# Altium schematic symbol library STO.SchLib: 181 symbols
Pins are listed as number, name and electrical type; pins without a type are passive.

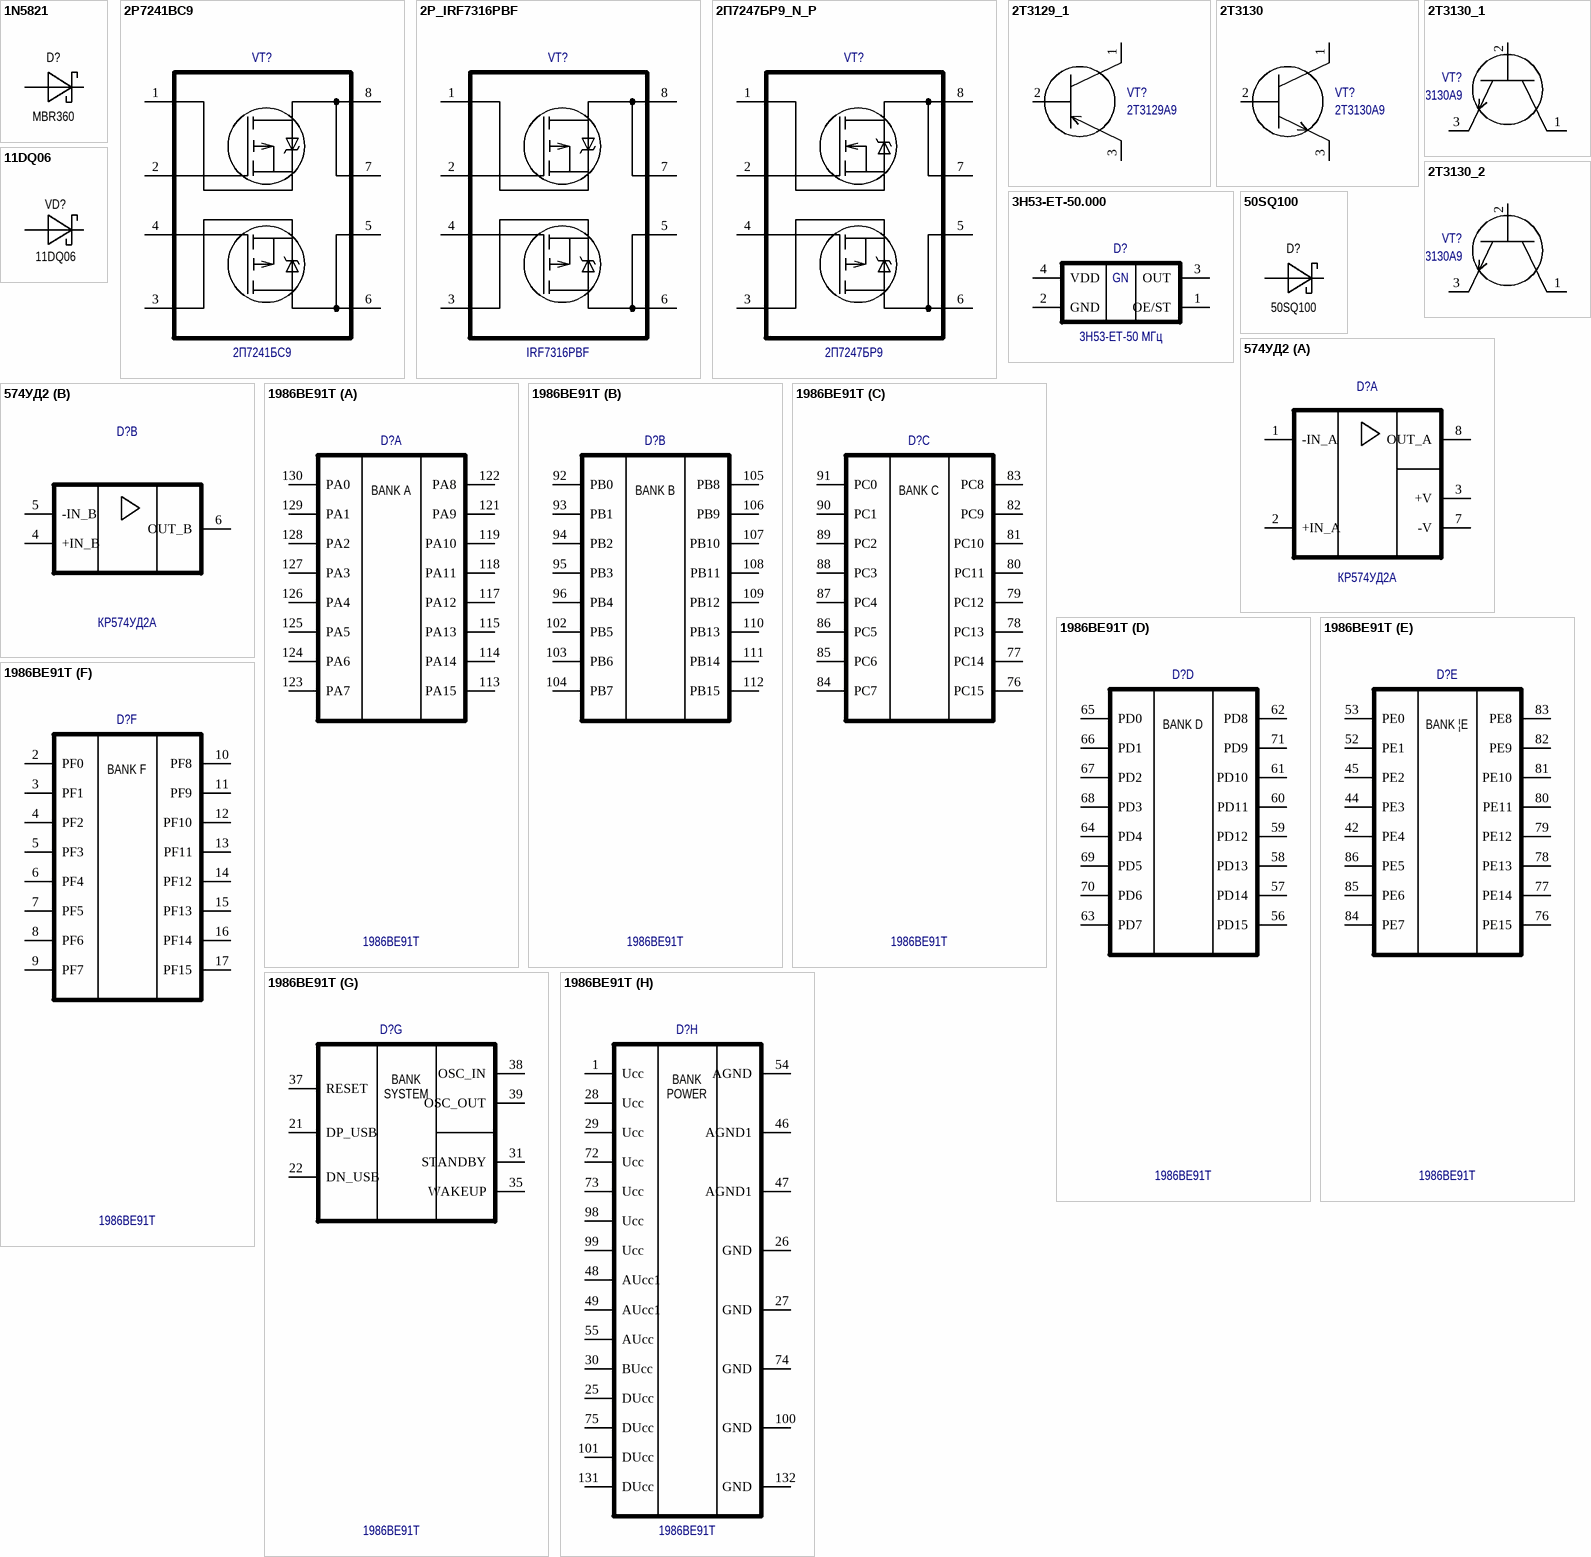
[diagram p0: symbols 1N5821 to 1986ВЕ91Т]

## 1N5821
designator D?, comment MBR360
pins: 1 A, 1 C

## 2P7241BC9
designator VT?, comment Name: 2П7241БС9  (hidden comment: 2П7241БС9 (4320.8-A) АЕЯР.432140.605 ТУ)
NameCompany: ВЗПП-С; Body: 4320.8-A; TU: АЕЯР.432140.605 ТУ; Value: 2П7241БС9; Family: Транзистор; PartNumber: 2П7241БС9
pins: 1 S1, 2 G1, 3 D2, 4 S2, 5 G2, 6 D1, 7 D1, 8 D1

## 2P_IRF7316PBF
designator VT?  PartNumber: IRF7316PBF
Company: IRF; Value: IRF7316PBF; Package: SOIC-8
pins: 1 S1, 2 G1, 3 D2, 4 S2, 5 G2, 6 D1, 7 D1, 8 D1

## 2П7247БР9_N_P
designator VT?, comment Name: 2П7247БР9  (hidden comment: 2П7247БР9 (4320.8-A) АЕЯР.432140.605 ТУ)
NameCompany: ВЗПП-С; Body: 4320.8-A; TU: АЕЯР.432140.605 ТУ; Value: 2П7247БР9; Family: Транзистор; PartNumber: 2П7247БР9
pins: 1 S1, 2 G1, 3 D2, 4 S2, 5 G2, 6 D1, 7 D1, 8 D1

## 2Т3129_1
designator VT?, comment Name: 2Т3129А9  (hidden comment: 2Т3129А9 (КТ-46А) АО.336.448ТУ / 02)
NameCompany: Интеграл; Body: КТ-46А; TU: АО.336.448ТУ / 02; Value: 2Т3129А9; Family: Транзистор; PartNumber: 2Т3129А9
pins: 1 K, 2 B, 3 E

## 2Т3130
designator VT?, comment Name: 2Т3130А9  (hidden comment: 2Т3130А9 (КТ-46А) аАО.336.448ТУ / 02)
NameCompany: Интеграл; Body: КТ-46А; TU: аАО.336.448ТУ / 02; Value: 2Т3130А9; Family: Транзистор; PartNumber: 2Т3130А9
pins: 1 K, 2 B, 3 E

## 2Т3130_1
designator VT?, comment Name: 2Т3130А9  (hidden comment: 2Т3130А9 (КТ-46А) аАО.336.448ТУ / 02)
NameCompany: Интеграл; Body: КТ-46А; TU: аАО.336.448ТУ / 02; Value: 2Т3130А9; Family: Транзистор; PartNumber: 2Т3130А9
pins: 1 K, 2 B, 3 E

## 2Т3130_2
designator VT?, comment Name: 2Т3130А9  (hidden comment: 2Т3130А9 (КТ-46А) аАО.336.448ТУ / 02)
NameCompany: Интеграл; Body: КТ-46А; TU: аАО.336.448ТУ / 02; Value: 2Т3130А9; Family: Транзистор; PartNumber: 2Т3130А9
pins: 1 K, 2 B, 3 E

## 3H53-ET-50.000
designator D?  value 3H53-ET-50 МГц
PartNumber: 3H53-ET-50.000; Company: Mercury United Electronics; Package: 0532
footprint SG8002JF (Crystal, SM; 4 Leads; Body 7 x 5 x 1.5 mm (LxWxH))
pins: 1 OE/ST, 2 GND, 3 OUT, 4 VDD
text: GN

## 11DQ06
designator VD?
pins: 1 A, 1 C

## 50SQ100
designator D?
pins: 1 A, 1 C

## 574УД2
designator D?, comment value КР574УД2A  (hidden comment: КР574УД2A (DIP-8) *)
Package: DIP-8; Company: *; PartNumber: КР574УД2A
footprint D*B (КР574УД2А (DIP-8))
footprint D*A (КР574УД2А (DIP-8))
part A pins: 1 -IN_A, 2 +IN_A, 3 +V, 7 -V, 8 OUT_A
part B pins: 4 +IN_B, 5 -IN_B, 6 OUT_B

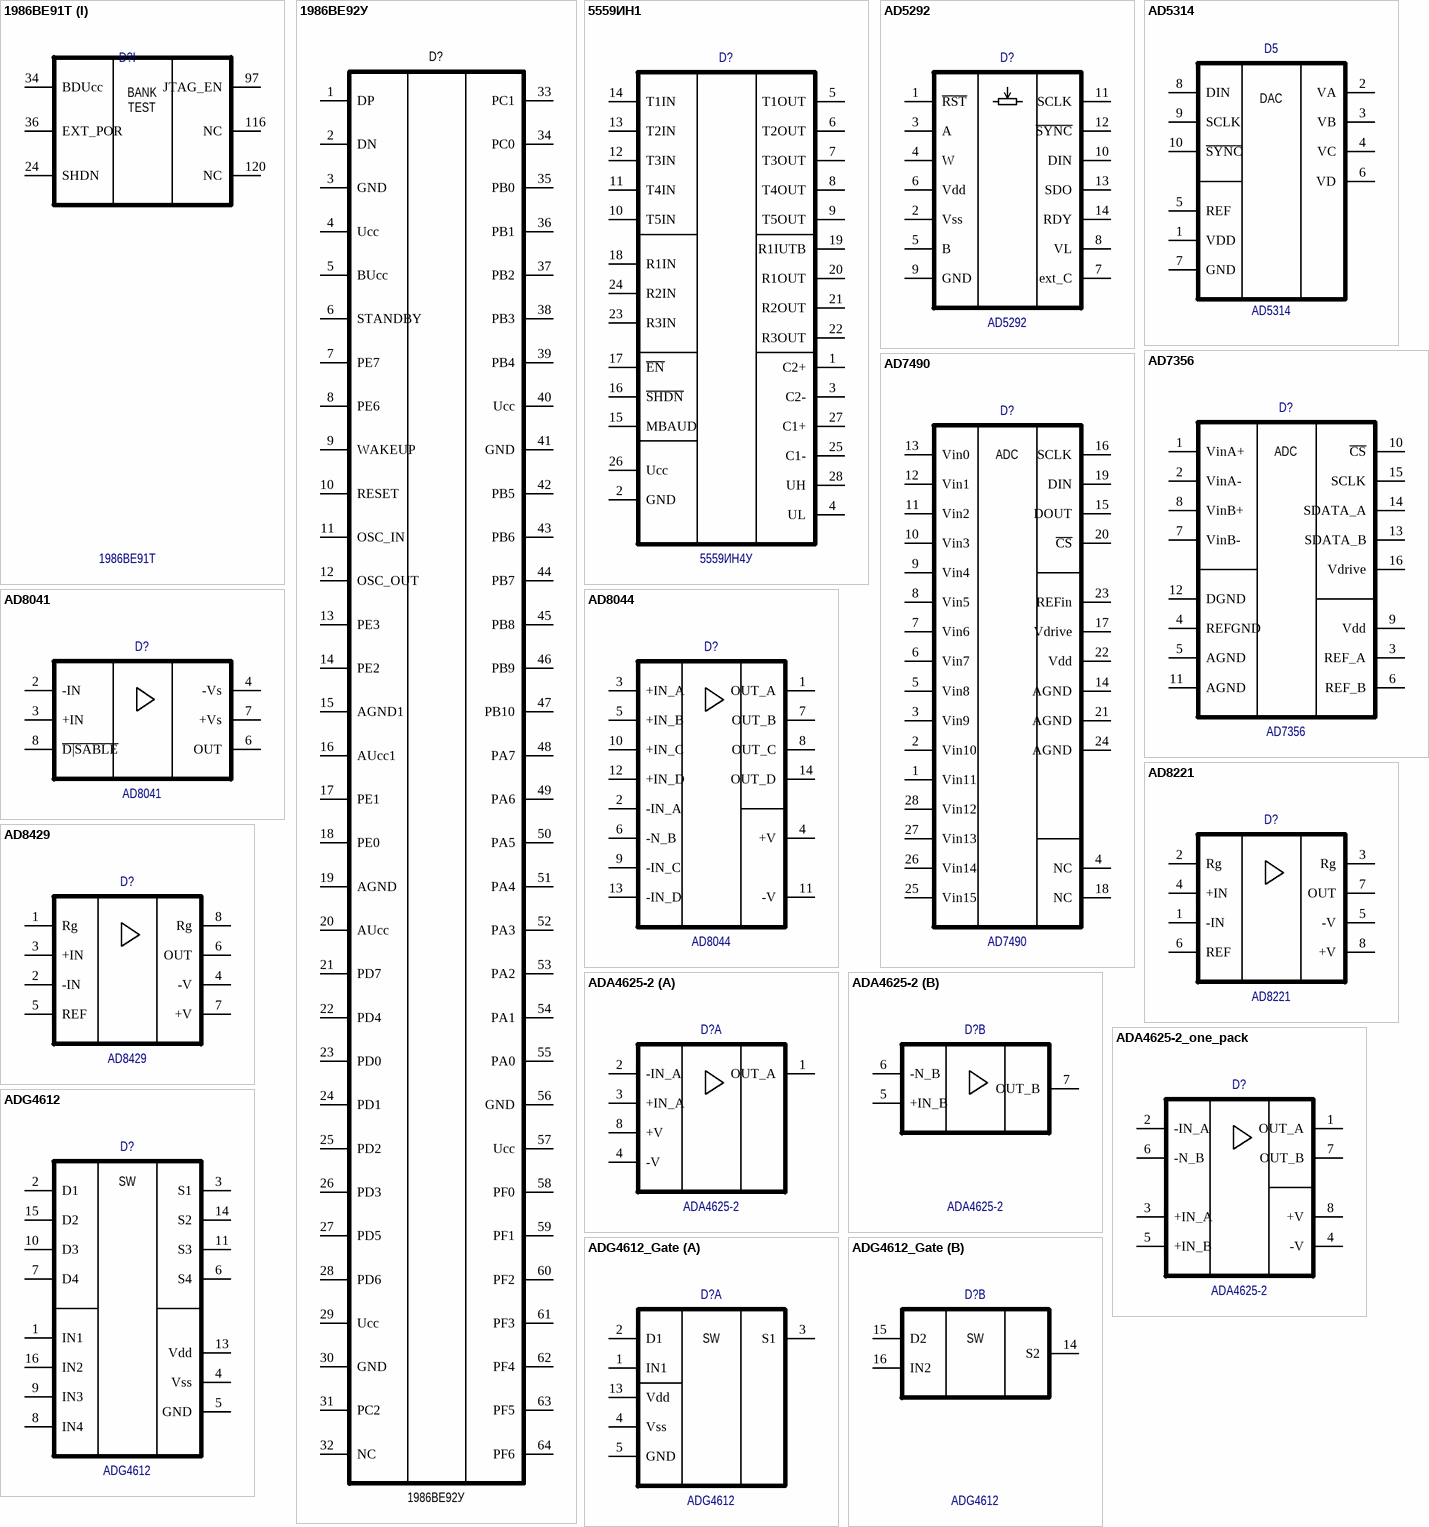
[diagram p1: symbols 1986ВЕ91Т to ADG4612_Gate]

## 1986ВЕ91Т
designator D?, comment value 1986ВЕ91Т  (hidden comment: (4229.132-3) Миландр)
Company: Миландр; Package: 4229.132-3
part A pins: 113 PA15, 114 PA14, 115 PA13, 117 PA12, 118 PA11, 119 PA10, 121 PA9, 122 PA8, 123 PA7, 124 PA6, 125 PA5, 126 PA4, 127 PA3, 128 PA2, 129 PA1, 130 PA0
part B pins: 92 PB0, 93 PB1, 94 PB2, 95 PB3, 96 PB4, 102 PB5, 103 PB6, 104 PB7, 105 PB8, 106 PB9, 107 PB10, 108 PB11, 109 PB12, 110 PB13, 111 PB14, 112 PB15
part C pins: 76 PC15, 77 PC14, 78 PC13, 79 PC12, 80 PC11, 81 PC10, 82 PC9, 83 PC8, 84 PC7, 85 PC6, 86 PC5, 87 PC4, 88 PC3, 89 PC2, 90 PC1, 91 PC0
part D pins: 56 PD15, 57 PD14, 58 PD13, 59 PD12, 60 PD11, 61 PD10, 62 PD8, 63 PD7, 64 PD4, 65 PD0, 66 PD1, 67 PD2, 68 PD3, 69 PD5, 70 PD6, 71 PD9
part E pins: 42 PE4, 44 PE3, 45 PE2, 52 PE1, 53 PE0, 76 PE15, 77 PE14, 78 PE13, 79 PE12, 80 PE11, 81 PE10, 82 PE9, 83 PE8, 84 PE7, 85 PE6, 86 PE5
part F pins: 2 PF0, 3 PF1, 4 PF2, 5 PF3, 6 PF4, 7 PF5, 8 PF6, 9 PF7, 10 PF8, 11 PF9, 12 PF10, 13 PF11, 14 PF12, 15 PF13, 16 PF14, 17 PF15
part G pins: 21 DP_USB, 22 DN_USB, 31 STANDBY, 35 WAKEUP, 37 RESET, 38 OSC_IN, 39 OSC_OUT
part H pins: 1 Ucc, 25 DUcc, 26 GND, 27 GND, 28 Ucc, 29 Ucc, 30 BUcc, 46 AGND1, 47 AGND1, 48 AUcc1, 49 AUcc1, 54 AGND, 55 AUcc, 72 Ucc, 73 Ucc, 74 GND, 75 DUcc, 98 Ucc, 99 Ucc, 100 GND, 101 DUcc, 131 DUcc, 132 GND
part I pins: 24 SHDN, 34 BDUcc, 36 EXT_POR, 97 JTAG_EN, 116 NC, 120 NC
part A text: BANK A
part B text: BANK B
part C text: BANK C
part D text: BANK D
part E text: BANK |E
part F text: BANK F
part G text: BANK; SYSTEM
part H text: BANK; POWER
part I text: BANK; TEST

## 1986ВЕ92У
designator D?
pins: 1 DP, 2 DN, 3 GND, 4 Ucc, 5 BUcc, 6 STANDBY, 7 PE7, 8 PE6, 9 WAKEUP, 10 RESET, 11 OSC_IN, 12 OSC_OUT, 13 PE3, 14 PE2, 15 AGND1, 16 AUcc1, 17 PE1, 18 PE0, 19 AGND, 20 AUcc, 21 PD7, 22 PD4, 23 PD0, 24 PD1, 25 PD2, 26 PD3, 27 PD5, 28 PD6, 29 Ucc, 30 GND, 31 PC2, 32 NC, 33 PC1, 34 PC0, 35 PB0, 36 PB1, 37 PB2, 38 PB3, 39 PB4, 40 Ucc, 41 GND, 42 PB5, 43 PB6, 44 PB7, 45 PB8, 46 PB9, 47 PB10, 48 PA7, 49 PA6, 50 PA5, 51 PA4, 52 PA3, 53 PA2, 54 PA1, 55 PA0, 56 GND, 57 Ucc, 58 PF0, 59 PF1, 60 PF2, 61 PF3, 62 PF4, 63 PF5, 64 PF6

## 5559ИН1
designator D?, comment value 5559ИН4У  (hidden comment: К5559ИН4УК (Н09.28-1В) АО "ПКК Миландр")
Company: АО "ПКК Миландр"; PartNumber: К5559ИН4УК; Package: Н09.28-1В
pins: 1 C2+, 2 GND, 3 C2-, 4 UL, 5 T1OUT, 6 T2OUT, 7 T3OUT, 8 T4OUT, 9 T5OUT, 10 T5IN, 11 T4IN, 12 T3IN, 13 T2IN, 14 T1IN, 15 MBAUD, 16 ~{SHDN}, 17 ~{EN}, 18 R1IN, 19 R1IUTB, 20 R1OUT, 21 R2OUT, 22 R3OUT, 23 R3IN, 24 R2IN, 25 C1-, 26 Ucc, 27 C1+, 28 UH

## AD5292
designator D?, comment value AD5292  (hidden comment: AD5292BRUZ-50 (TSSOP-14) Analog Devices)
Company: Analog Devices; PartNumber: AD5292BRUZ-50; Package: TSSOP-14
pins: 1 ~{RST}, 2 Vss, 3 A, 4 W, 5 B, 6 Vdd, 7 ext_C, 8 VL, 9 GND, 10 DIN, 11 SCLK, 12 ~{SYNC}, 13 SDO, 14 RDY

## AD5314
designator D5, comment value AD5314  (hidden comment: AD5314 (MSOP-10) Analog Devices)
PartNumber: AD5314BRM; Package: MSOP-10; Company: Analog Devices
footprint MS10 (Shrink Small Outline; 10 Leads; Body Width 3 mm; Pitch 0.5 mm)
pins: 1 VDD, 2 VA, 3 VB, 4 VC, 5 REF, 6 VD, 7 GND, 8 DIN, 9 SCLK, 10 ~{SYNC}
text: DAC

## AD7356
designator D?, comment value AD7356  (hidden comment: AD7356BRUZ (TSSOP-16) Analog Devices)
Company: Analog Devices; PartNumber: AD7356BRUZ; Package: TSSOP-16
pins: 1 VinA+, 2 VinA-, 3 REF_A, 4 REFGND, 5 AGND, 6 REF_B, 7 VinB-, 8 VinB+, 9 Vdd, 10 ~{CS}, 11 AGND, 12 DGND, 13 SDATA_B, 14 SDATA_A, 15 SCLK, 16 Vdrive
text: ADC

## AD7490
designator D?, comment value AD7490  (hidden comment: AD7490BRU (TSSOP-28) Analog Devices)
Company: Analog Devices; PartNumber: AD7490BRU; Package: TSSOP-28
pins: 1 Vin11, 2 Vin10, 3 Vin9, 4 NC, 5 Vin8, 6 Vin7, 7 Vin6, 8 Vin5, 9 Vin4, 10 Vin3, 11 Vin2, 12 Vin1, 13 Vin0, 14 AGND, 15 DOUT, 16 SCLK, 17 Vdrive, 18 NC, 19 DIN, 20 ~{CS}, 21 AGND, 22 Vdd, 23 REFin, 24 AGND, 25 Vin15, 26 Vin14, 27 Vin13, 28 Vin12
text: ADC

## AD8041
designator D?, comment value AD8041  (hidden comment: () Analog Devices)
Company: Analog Devices
pins: 2 -IN, 3 +IN, 4 -Vs, 6 OUT, 7 +Vs, 8 ~{D|SABLE}

## AD8044
designator D?, comment value AD8044  (hidden comment: () Analog Devices)
Company: Analog Devices
pins: 1 OUT_A, 2 -IN_A, 3 +IN_A, 4 +V, 5 +IN_B, 6 -N_B, 7 OUT_B, 8 OUT_C, 9 -IN_C, 10 +IN_C, 11 -V, 12 +IN_D, 13 -IN_D, 14 OUT_D

## AD8221
designator D?, comment value AD8221  (hidden comment: AD8221AR (SOIC-8) Analog Devices)
Company: Analog Devices; PartNumber: AD8221AR; Package: SOIC-8
pins: 1 -IN, 2 Rg, 3 Rg, 4 +IN, 5 -V, 6 REF, 7 OUT, 8 +V

## AD8429
designator D?, comment value AD8429  (hidden comment: AD8429 (SOIC-8) Analog Devices)
Company: Analog Devices; PartNumber: AD8429; Package: SOIC-8
pins: 1 Rg, 2 -IN, 3 +IN, 4 -V, 5 REF, 6 OUT, 7 +V, 8 Rg

## ADA4625-2
designator D?, comment value ADA4625-2  (hidden comment: ADA4625-2ARDZ (SOIC-8_N_EP) Analog Devices)
Company: Analog Devices; PartNumber: ADA4625-2ARDZ; Package: SOIC-8_N_EP
part A pins: 1 OUT_A, 2 -IN_A, 3 +IN_A, 4 -V, 8 +V
part B pins: 5 +IN_B, 6 -N_B, 7 OUT_B

## ADA4625-2_one_pack
designator D?, comment value ADA4625-2  (hidden comment: ADA4625-2ARDZ (SOIC-8_N_EP) Analog Devices)
Company: Analog Devices; PartNumber: ADA4625-2ARDZ; Package: SOIC-8_N_EP
pins: 1 OUT_A, 2 -IN_A, 3 +IN_A, 4 -V, 5 +IN_B, 6 -N_B, 7 OUT_B, 8 +V

## ADG4612
designator D?, comment value ADG4612  (hidden comment: * (*) *)
Company: *; PartNumber: *; Package: *
pins: 1 IN1, 2 D1, 3 S1, 4 Vss, 5 GND, 6 S4, 7 D4, 8 IN4, 9 IN3, 10 D3, 11 S3, 13 Vdd, 14 S2, 15 D2, 16 IN2
text: SW

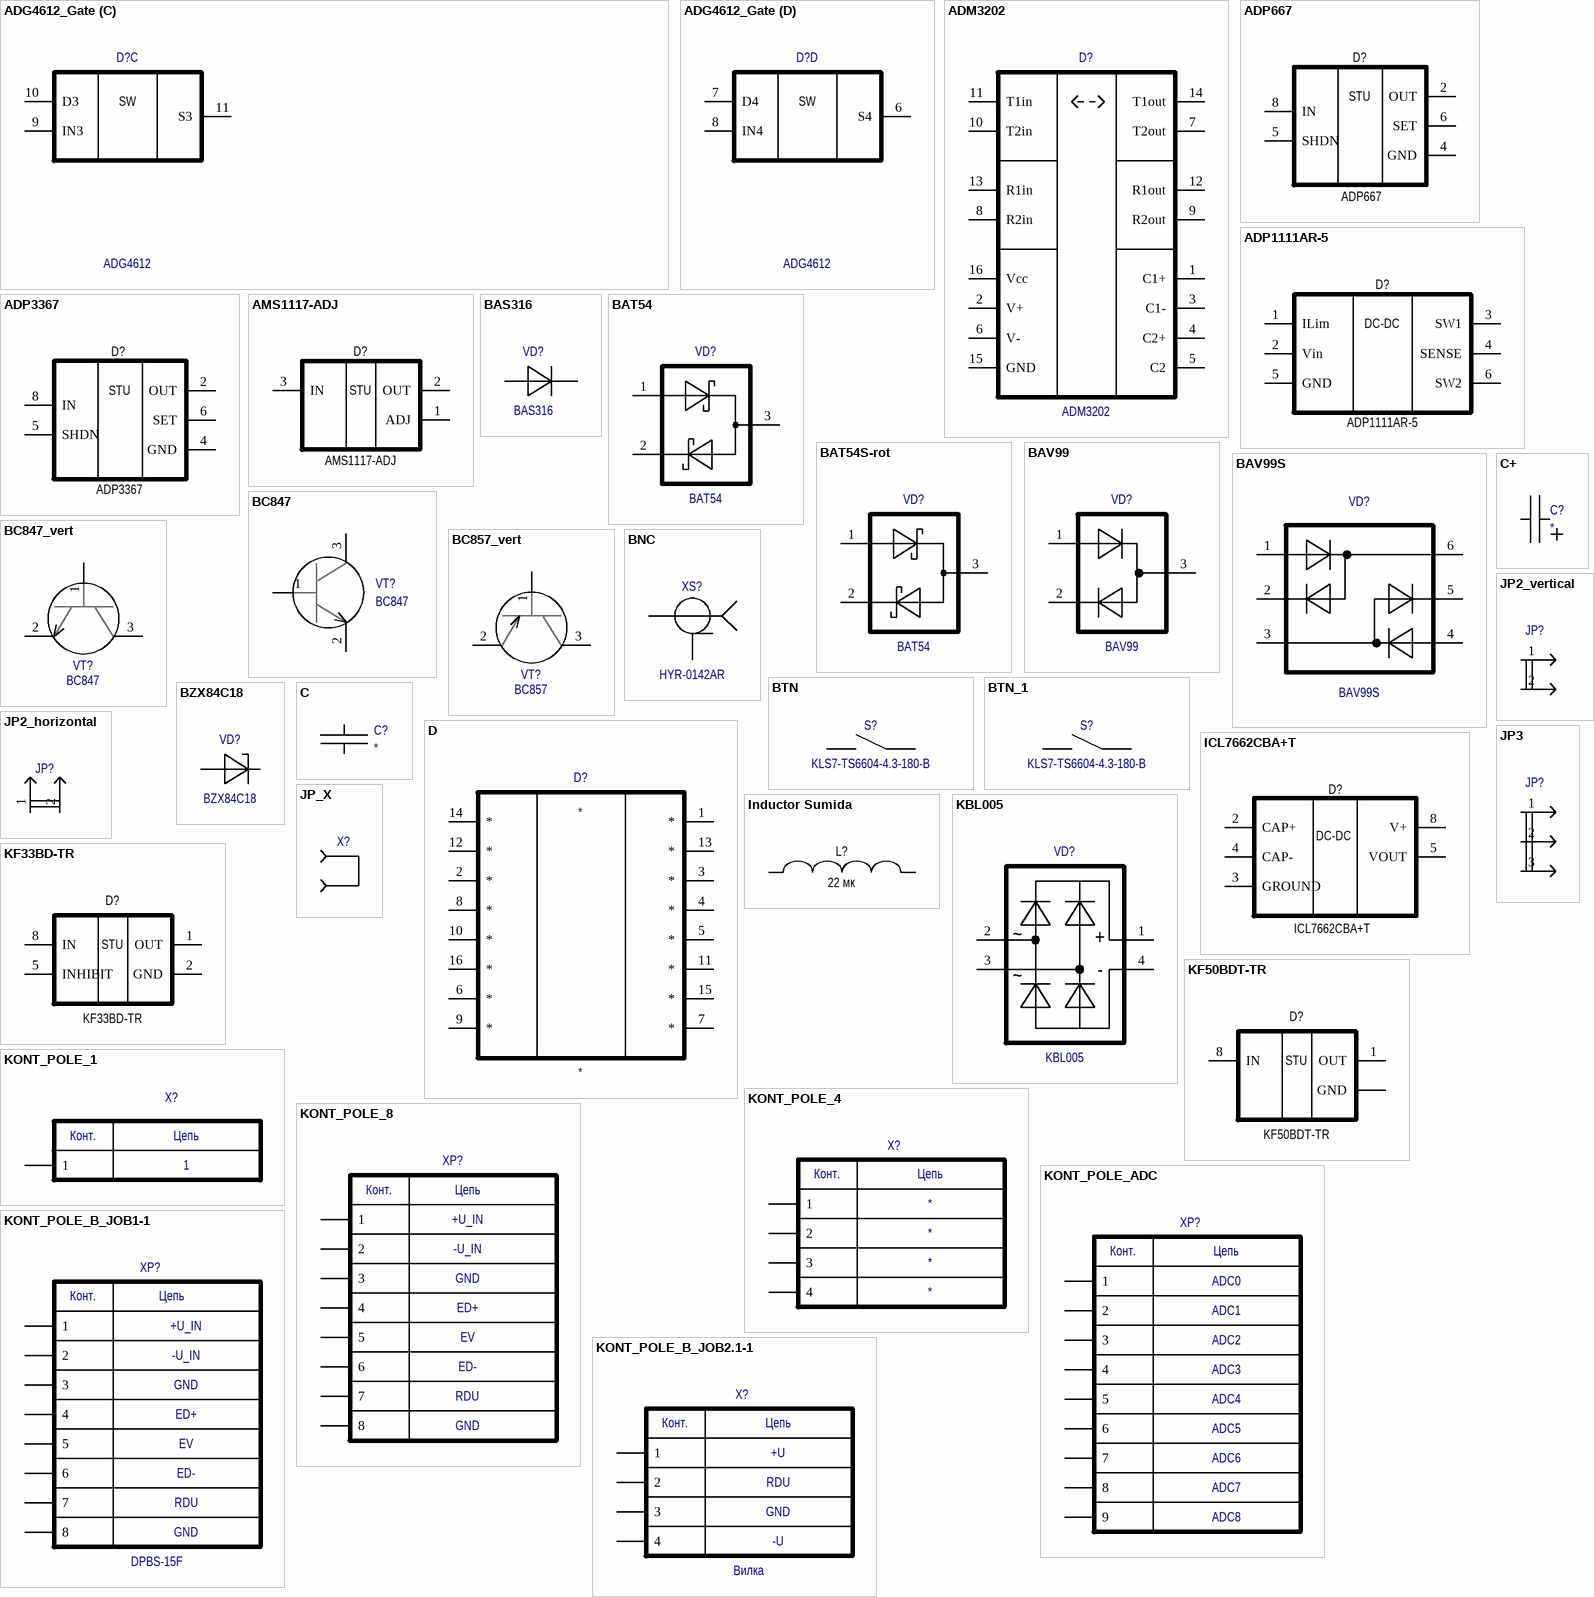
[diagram p2: symbols ADG4612_Gate to KONT_POLE_B_JOB2.1-1]

## ADG4612_Gate
designator D?, comment value ADG4612  (hidden comment: * (*) *)
Company: *; PartNumber: *; Package: *
part A pins: 1 IN1, 2 D1, 3 S1, 4 Vss, 5 GND, 13 Vdd
part B pins: 14 S2, 15 D2, 16 IN2
part C pins: 9 IN3, 10 D3, 11 S3
part D pins: 6 S4, 7 D4, 8 IN4
part A text: SW
part B text: SW
part C text: SW
part D text: SW

## ADM3202
designator D?, comment value ADM3202  (hidden comment: ADM3202ARN (SOIC-16) Analog Devices)
Company: Analog Devices; PartNumber: ADM3202ARN; Package: SOIC-16
pins: 1 C1+, 2 V+, 3 C1-, 4 C2+, 5 C2, 6 V-, 7 T2out, 8 R2in, 9 R2out, 10 T2in, 11 T1in, 12 R1out, 13 R1in, 14 T1out, 15 GND, 16 Vcc

## ADP667
designator D?
pins: 2 OUT, 4 GND, 5 SHDN, 6 SET, 8 IN
text: STU

## ADP1111AR-5
designator D?
pins: 1 ILim, 2 Vin, 3 SW1, 4 SENSE, 5 GND, 6 SW2
text: DC-DC

## ADP3367
designator D?
pins: 2 OUT, 4 GND, 5 SHDN, 6 SET, 8 IN
text: STU

## AMS1117-ADJ
designator D?
pins: 1 ADJ, 2 OUT, 3 IN
text: STU

## BAS316
designator VD?
Company: NXP; PartNumber: BAS316; Package: SOD-323; Value: BAS316
footprint SOD323 (SOD-323/SC-76; 2 Leads; Body 1.7 x 1.3 mm, (LxW))
pins: 1, 2

## BAT54
designator VD?
PartNumber: BAT54S; Company: Philips; Package: SOT-23; Value: BAT54
footprint SOT-23
pins: 1 A, 2 C, 3 AC

## BAT54S-rot
designator VD?  value BAT54  (hidden comment: BAT54S-rot)
PartNumber: BAT54S; Company: Philips; Package: SOT-23
footprint SOT-23
pins: 1 A, 2 C, 3 AC

## BAV99
designator VD?, comment value BAV99  (hidden comment: BAV99 (SOT23) NXP)
Company: NXP; PartNumber: BAV99; Package: SOT23
pins: 1, 2, 3

## BAV99S
designator VD?
pins: 1, 2, 3, 4, 5, 6

## BC847
designator VT?, comment value BC847  (hidden comment: BC847C (SOT-23) NXP)
Package: SOT-23; PartNumber: BC847C; Company: NXP
footprint SOT-23
pins: 1, 2, 3

## BC847_vert
designator VT?, comment value BC847  (hidden comment: BC847C (SOT-23) NXP)
Package: SOT-23; PartNumber: BC847C; Company: NXP
footprint SOT-23
pins: 1, 2, 3

## BC857_vert
designator VT?, comment value BC857  (hidden comment: BC857C (SOT-23) NXP)
Package: SOT-23; PartNumber: BC857C; Company: NXP
footprint SOT-23
pins: 1, 2, 3

## BNC
designator XS?, comment value HYR-0142AR  (hidden comment: Гнездо HYR-0142AR)
Company: New Centress; PartNumber: HYR-0142AR
pins: 1 IN, 2 GND

## BTN
designator S?, comment PartNumber: KLS7-TS6604-4.3-180-B  (hidden comment: Тактильный переключатель KLS7-TS6604-4.3-180-B KLS)
Company: KLS
pins: 2, 4

## BTN_1
designator S?, comment PartNumber: KLS7-TS6604-4.3-180-B  (hidden comment: Тактильный переключатель KLS7-TS6604-4.3-180-B KLS)
Company: KLS
pins: 2, 4

## BZX84C18
designator VD?
Company: International Rectifier; PartNumber: BZX84C18; Package: SOD-23; Value: BZX84C18
pins: 1 A, 1 C

## C
designator C?, comment *Ф ±* * * *, *  (value not drawn)
Company: *; PartNumber: *; Tolerance: *; Voltage: *; Type: *; Package: *; Value: *
pins: 1, 2

## C+
designator C?, comment *Ф ±* * * *, *  (value not drawn)
Company: *; Tolerance: *; Voltage: *; Type: *; PartNumber: *; Package: *; Value: *
pins: 1, 2

## D
designator D?, comment * (*) *  (value not drawn)
Company: *; PartNumber: *; Package: *; Value: *
pins: 1 *, 2 *, 3 *, 4 *, 5 *, 6 *, 7 *, 8 *, 9 *, 10 *, 11 *, 12 *, 13 *, 14 *, 15 *, 16 *

## ICL7662CBA+T
designator D?
pins: 2 CAP+, 3 GROUND, 4 CAP-, 5 VOUT, 8 V+
text: DC-DC

## Inductor Sumida
designator L?, comment 22 мк

## JP2_horizontal
designator JP?, comment * (*) *  (value not drawn)
Company: *; PartNumber: *; Package: *; Value: *
pins: 1, 2

## JP2_vertical
designator JP?, comment * (*) *  (value not drawn)
Company: *; PartNumber: *; Package: *; Value: *
pins: 1, 2

## JP3
designator JP?, comment * (*) *  (value not drawn)
Company: *; PartNumber: *; Package: *; Value: *
pins: 1, 2, 3

## JP_X
designator X?, comment * (*) *  (value not drawn)
Company: *; PartNumber: *; Package: *; Value: *

## KBL005
designator VD?
PartNumber: KBL005-E4/51; Company: VISHAY; Vrrm: 50В; IА: 4А; IFMS: 200А; Package: KBL; Value: KBL005
pins: 1, 2, 3, 4
text: ~; +; -

## KF33BD-TR
designator D?
pins: 1 OUT, 2 GND, 5 INHIBIT, 8 IN
text: STU

## KF50BDT-TR
designator D?
pins: 1 OUT, 8 IN, ?1 GND
text: STU

## KONT_POLE_1
designator X?  (value not drawn)
1: 1
pins: 1
text: Конт.; Цепь

## KONT_POLE_4
designator X?  (value not drawn)
1: *; 2: *; 3: *; 4: *
pins: 1, 2, 3, 4
text: Конт.; Цепь

## KONT_POLE_8
designator XP?  2: -U_IN  1: +U_IN  3: GND  4: ED+  5: EV  6: ED-  7: RDU  (hidden comment: KONT_POLE_8)
8: GND
pins: 1, 2, 3, 4, 5, 6, 7, 8
text: Конт.; Цепь

## KONT_POLE_ADC
designator XP?, comment 9: ADC8  2: ADC1  1: ADC0  3: ADC2  4: ADC3  5: ADC4  7: ADC6  6: ADC5  8: ADC7  (hidden comment: ADC)
pins: 1, 2, 3, 4, 5, 6, 7, 8, 9
text: Конт.; Цепь

## KONT_POLE_B_JOB1-1
designator XP?  value DPBS-15F  1: +U_IN  2: -U_IN  4: ED+  5: EV  6: ED-  7: RDU  8: GND  (hidden comment: KONT_POLE_B_JOB1-1)
10: GND
pins: 1, 2, 3, 4, 5, 6, 7, 8
text: Конт.; Цепь

## KONT_POLE_B_JOB2.1-1
designator X?  PartNamber: Вилка  1: +U  2: RDU  3: GND  4: -U  (hidden comment: KONT_POLE_B_JOB2.1-1)
pins: 1, 2, 3, 4
text: Конт.; Цепь

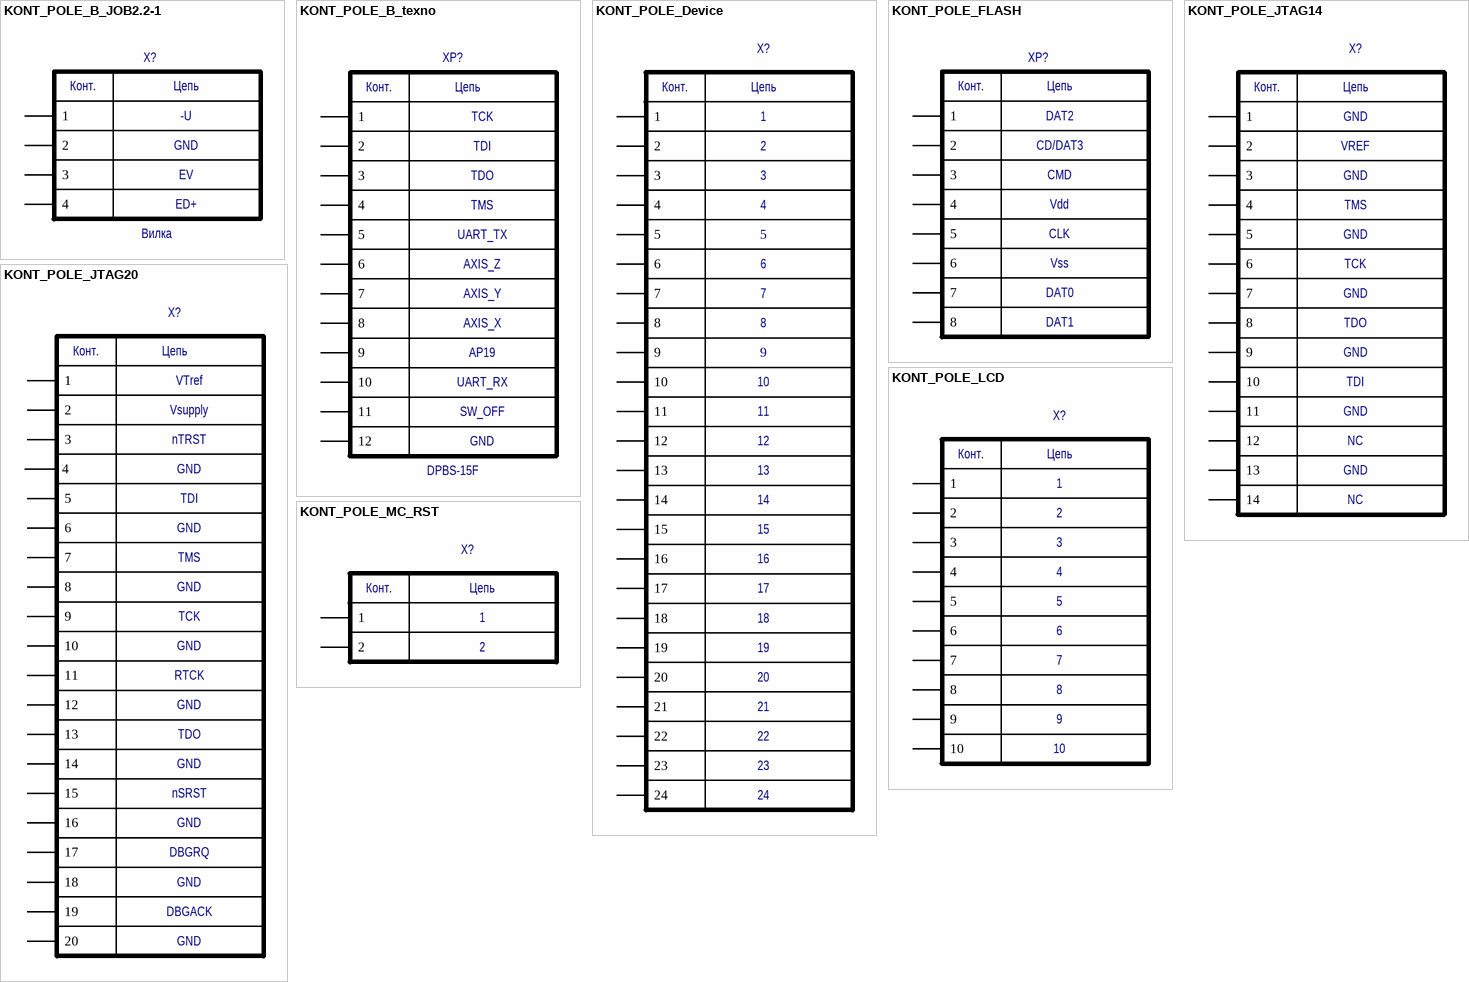
[diagram p3: symbols KONT_POLE_B_JOB2.2-1 to KONT_POLE_MC_RST]

## KONT_POLE_B_JOB2.2-1
designator X?  PartNamber: Вилка  1: -U  2: GND  3: EV  4: ED+  (hidden comment: KONT_POLE_B_JOB2.2-1)
pins: 1, 2, 3, 4
text: Конт.; Цепь

## KONT_POLE_B_texno
designator XP?  value DPBS-15F  1: TCK  2: TDI  3: UART_RX  4: TMS  5: UART_TX  6: AXIS_Z  7: AXIS_Y  8: AXIS_X  9: AP19  10: TDO  11: SW_OFF  12: GND  (hidden comment: KONT_POLE_B_texno)
pins: 1, 2, 3, 4, 5, 6, 7, 8, 9, 10, 11, 12
text: Конт.; Цепь

## KONT_POLE_Device
designator X?  (value not drawn)
1: 1; 3: 3; 2: 2; 4: 4; 6: 6; 7: 7; 8: 8; 10: 10; 11: 11; 12: 12; 13: 13; 14: 14; 15: 15; 16: 16; 17: 17; 18: 18; 19: 19; 20: 20; 21: 21; 22: 22; 23: 23; 24: 24; 5: 5; 9: 9
pins: 1, 2, 3, 4, 5, 6, 7, 8, 9, 10, 11, 12, 13, 14, 15, 16, 17, 18, 19, 20, 21, 22, 23, 24
text: Конт.; Цепь

## KONT_POLE_FLASH
designator XP?  (value not drawn)
pins: 1, 2, 3, 4, 5, 6, 7, 8
text: Конт.; Цепь; DAT2; CD/DAT3; CMD; Vdd; CLK; Vss; DAT0; DAT1

## KONT_POLE_JTAG14
designator X?  1: GND  2: VREF  4: TMS  6: TCK  8: TDO  10: TDI  12: NC  (hidden comment: KONT_POLE_JTAG14)
3: GND; 7: GND; 11: GND; 13: GND; 14: NC; 5: GND; 9: GND
pins: 1, 2, 3, 4, 5, 6, 7, 8, 9, 10, 11, 12, 13, 14
text: Конт.; Цепь

## KONT_POLE_JTAG20
designator X?  1: VTref  3: nTRST  2: Vsupply  4: GND  7: TMS  11: RTCK  13: TDO  15: nSRST  17: DBGRQ  19: DBGACK  5: TDI  9: TCK  (hidden comment: KONT_POLE_JTAG20)
6: GND; 8: GND; 10: GND; 12: GND; 14: GND; 16: GND; 18: GND; 20: GND
pins: 1, 2, 3, 4, 5, 6, 7, 8, 9, 10, 11, 12, 13, 14, 15, 16, 17, 18, 19, 20
text: Конт.; Цепь

## KONT_POLE_LCD
designator X?, comment 21  (value not drawn)
21: 21; 22: 22; 23: 23; 24: 24; 1: 1; 3: 3; 2: 2; 4: 4; 6: 6; 7: 7; 8: 8; 10: 10; 5: 5; 9: 9
pins: 1, 2, 3, 4, 5, 6, 7, 8, 9, 10
text: Конт.; Цепь

## KONT_POLE_MC_RST
designator X?  (value not drawn)
1: 1; 2: 2
pins: 1, 2
text: Конт.; Цепь

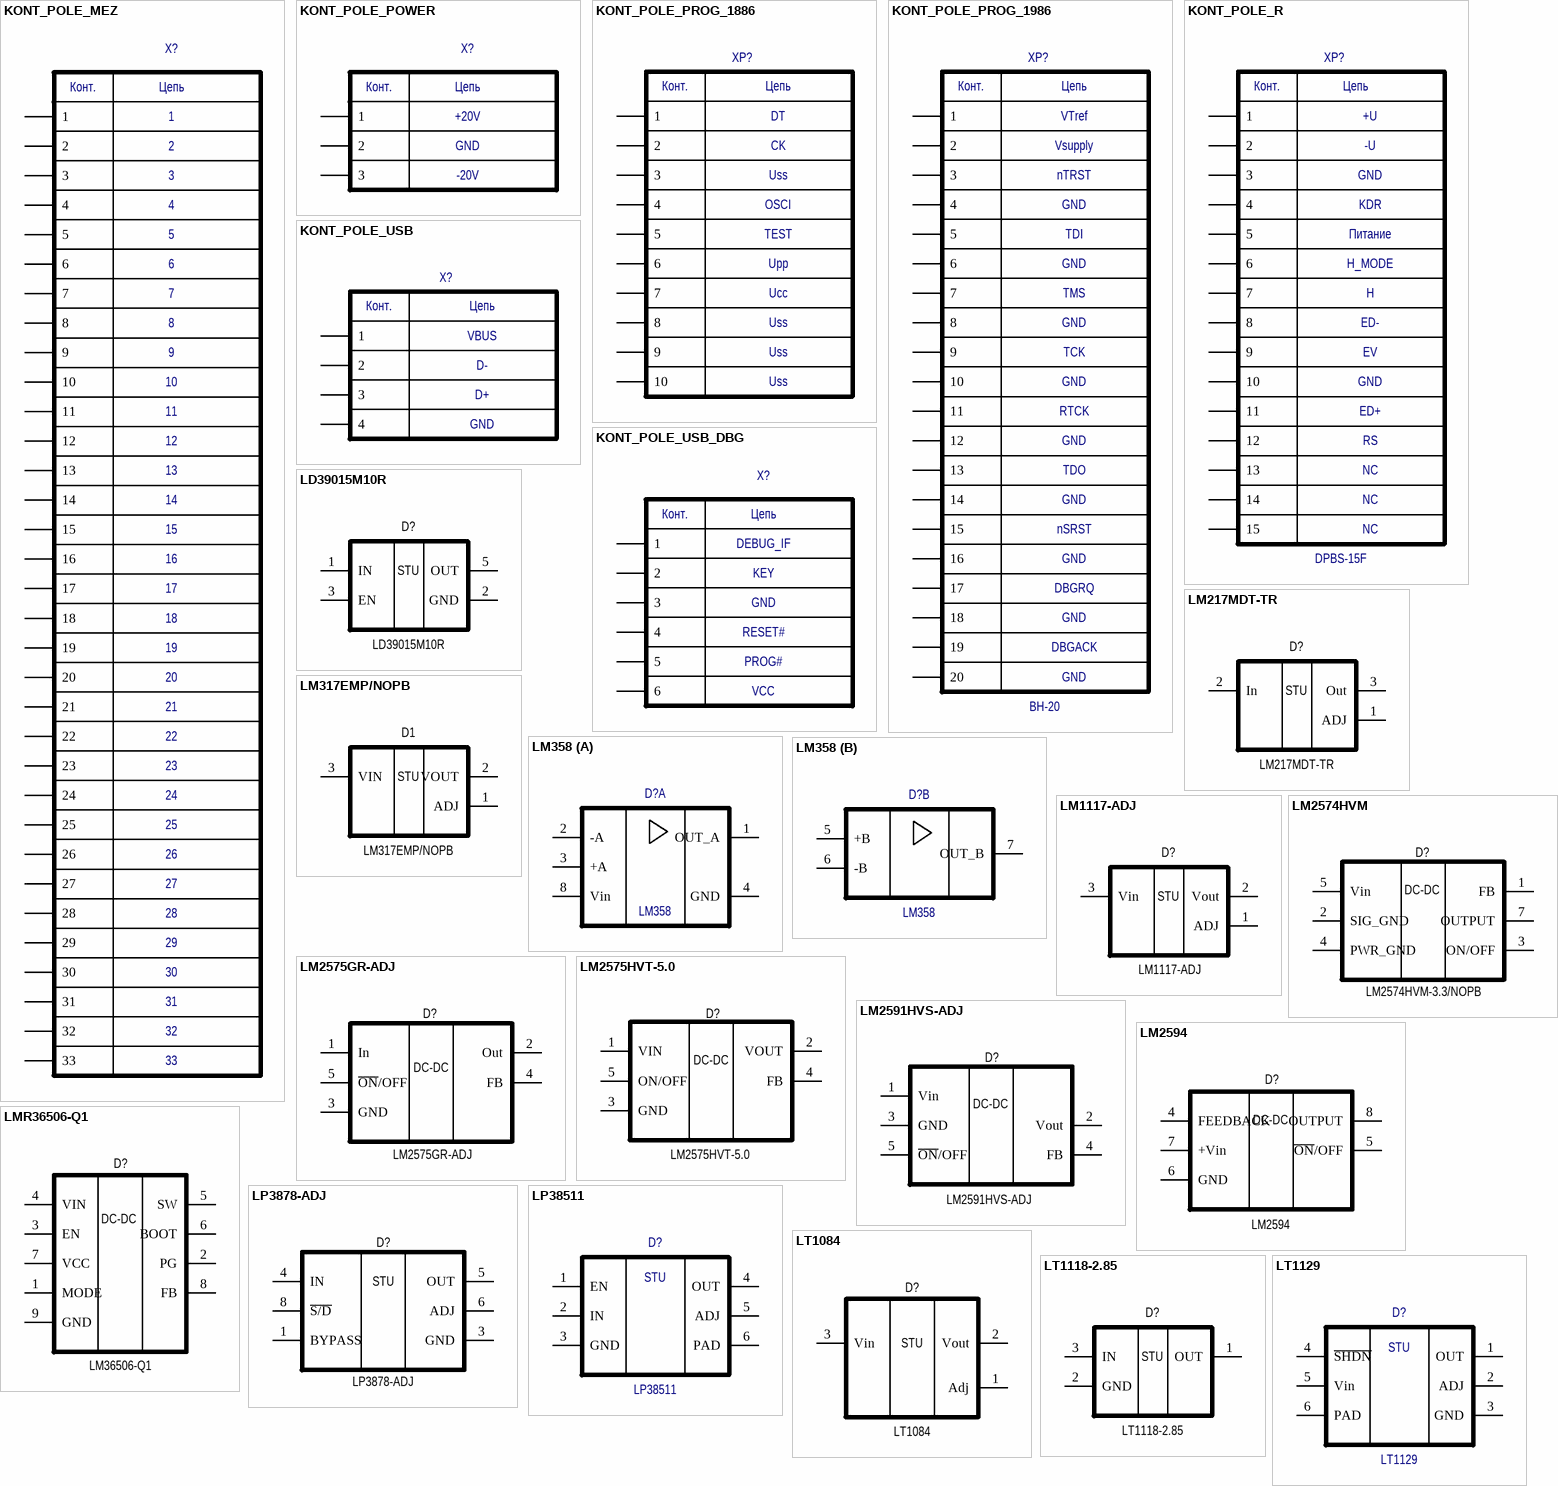
[diagram p4: symbols KONT_POLE_MEZ to LT1129]

## KONT_POLE_MEZ
designator X?  (value not drawn)
1: 1; 3: 3; 2: 2; 4: 4; 6: 6; 7: 7; 8: 8; 10: 10; 11: 11; 12: 12; 13: 13; 14: 14; 15: 15; 16: 16; 17: 17; 18: 18; 19: 19; 20: 20; 21: 21; 22: 22; 23: 23; 24: 24; 5: 5; 9: 9; 25: 25; 26: 26; 27: 27; 29: 29; 30: 30; 31: 31; 32: 32; 33: 33; 28: 28
pins: 1, 2, 3, 4, 5, 6, 7, 8, 9, 10, 11, 12, 13, 14, 15, 16, 17, 18, 19, 20, 21, 22, 23, 24, 25, 26, 27, 28, 29, 30, 31, 32, 33
text: Конт.; Цепь

## KONT_POLE_POWER
designator X?  1: +20V  3: -20V  2: GND  (hidden comment: KONT_POLE_POWER)
pins: 1, 2, 3
text: Конт.; Цепь

## KONT_POLE_PROG_1886
designator XP?  1: DT  2: CK  3: Uss  4: OSCI  5: TEST  6: Upp  7: Ucc  (hidden comment: KONT_POLE_PROG_1886)
Value: PLD-10; 8: Uss; 9: Uss; 10: Uss
pins: 1, 2, 3, 4, 5, 6, 7, 8, 9, 10
text: Конт.; Цепь

## KONT_POLE_PROG_1986
designator XP?  value BH-20  17: DBGRQ  16: GND  1: VTref  2: Vsupply  5: TDI  7: TMS  9: TCK  10: nTRST  11: RTCK  13: TDO  15: nSRST  19: DBGACK  (hidden comment: KONT_POLE_PROG_1986)
18: GND; 3: GND; 4: GND; 6: GND; 8: GND; 12: GND; 14: GND; 20: GND
pins: 1, 2, 3, 4, 5, 6, 7, 8, 9, 10, 11, 12, 13, 14, 15, 16, 17, 18, 19, 20
text: Конт.; Цепь

## KONT_POLE_R
designator XP?  value DPBS-15F  1: +U  2: -U  3: GND  4: KDR  5: Питание  6: H_MODE  7: H  8: ED-  9: EV  11: ED+  12: RS  13: NC  (hidden comment: KONT_POLE_R)
10: GND; 14: NC; 15: NC
pins: 1, 2, 3, 4, 5, 6, 7, 8, 9, 10, 11, 12, 13, 14, 15
text: Конт.; Цепь

## KONT_POLE_USB
designator X?  1: VBUS  2: D-  3: D+  4: GND  (hidden comment: KONT_POLE_USB)
pins: 1, 2, 3, 4
text: Конт.; Цепь

## KONT_POLE_USB_DBG
designator X?  1: DEBUG_IF  3: GND  2: KEY  4: RESET#  6: VCC  5: PROG#  (hidden comment: KONT_POLE_USB_DBG)
pins: 1, 2, 3, 4, 5, 6
text: Конт.; Цепь

## LD39015M10R
designator D?
pins: 1 IN, 2 GND, 3 EN, 5 OUT
text: STU

## LM217MDT-TR
designator D?
pins: 1 ADJ, 2 In, 3 Out
text: STU

## LM317EMP/NOPB
designator D1
pins: 1 ADJ, 2 VOUT, 3 VIN
text: STU

## LM358
designator D?, comment value LM358  (hidden comment: ())
part A pins: 1 OUT_A, 2 -A, 3 +A, 4 GND, 8 Vin
part B pins: 5 +B, 6 -B, 7 OUT_B

## LM1117-ADJ
designator D?
pins: 1 ADJ, 2 Vout, 3 Vin
text: STU

## LM2574HVM
designator D?, comment LM2574HVM-3.3/NOPB
pins: 1 FB, 2 SIG_GND, 3 ON/OFF, 4 PWR_GND, 5 Vin, 7 OUTPUT
text: DC-DC

## LM2575GR-ADJ
designator D?
pins: 1 In, 2 Out, 3 GND, 4 FB, 5 ~{ON}/OFF
text: DC-DC

## LM2575HVT-5.0
designator D?
pins: 1 VIN, 2 VOUT, 3 GND, 4 FB, 5 ON/OFF
text: DC-DC

## LM2591HVS-ADJ
designator D?
pins: 1 Vin, 2 Vout, 3 GND, 4 FB, 5 ~{ON}/OFF
text: DC-DC

## LM2594
designator D?
pins: 4 FEEDBACK, 5 ~{ON}/OFF, 6 GND, 7 +Vin, 8 OUTPUT
text: DC-DC

## LMR36506-Q1
designator D?, comment LM36506-Q1
pins: 1 MODE, 2 PG, 3 EN, 4 VIN, 5 SW, 6 BOOT, 7 VCC, 8 FB, 9 GND
text: DC-DC

## LP3878-ADJ
designator D?
pins: 1 BYPASS, 3 GND, 4 IN, 5 OUT, 6 ADJ, 8 ~{S/D}
text: STU

## LP38511
designator D?
PartNumber: LP38511-ADJ; Company: Texas Instruments; Package: PFM-5; Value: LP38511
pins: 1 EN, 2 IN, 3 GND, 4 OUT, 5 ADJ, 6 PAD
text: STU

## LT1084
designator D?
pins: 1 Adj, 2 Vout, 3 Vin
text: STU

## LT1118-2.85
designator D?
pins: 1 OUT, 2 GND, 3 IN
text: STU

## LT1129
designator D?, comment value LT1129  (hidden comment: LT1129CQ (DD-PAK-5) Linear Technology)
Company: Linear Technology; PartNumber: LT1129CQ; Package: DD-PAK-5
pins: 1 OUT, 2 ADJ, 3 GND, 4 ~{SHDN}, 5 Vin, 6 PAD
text: STU

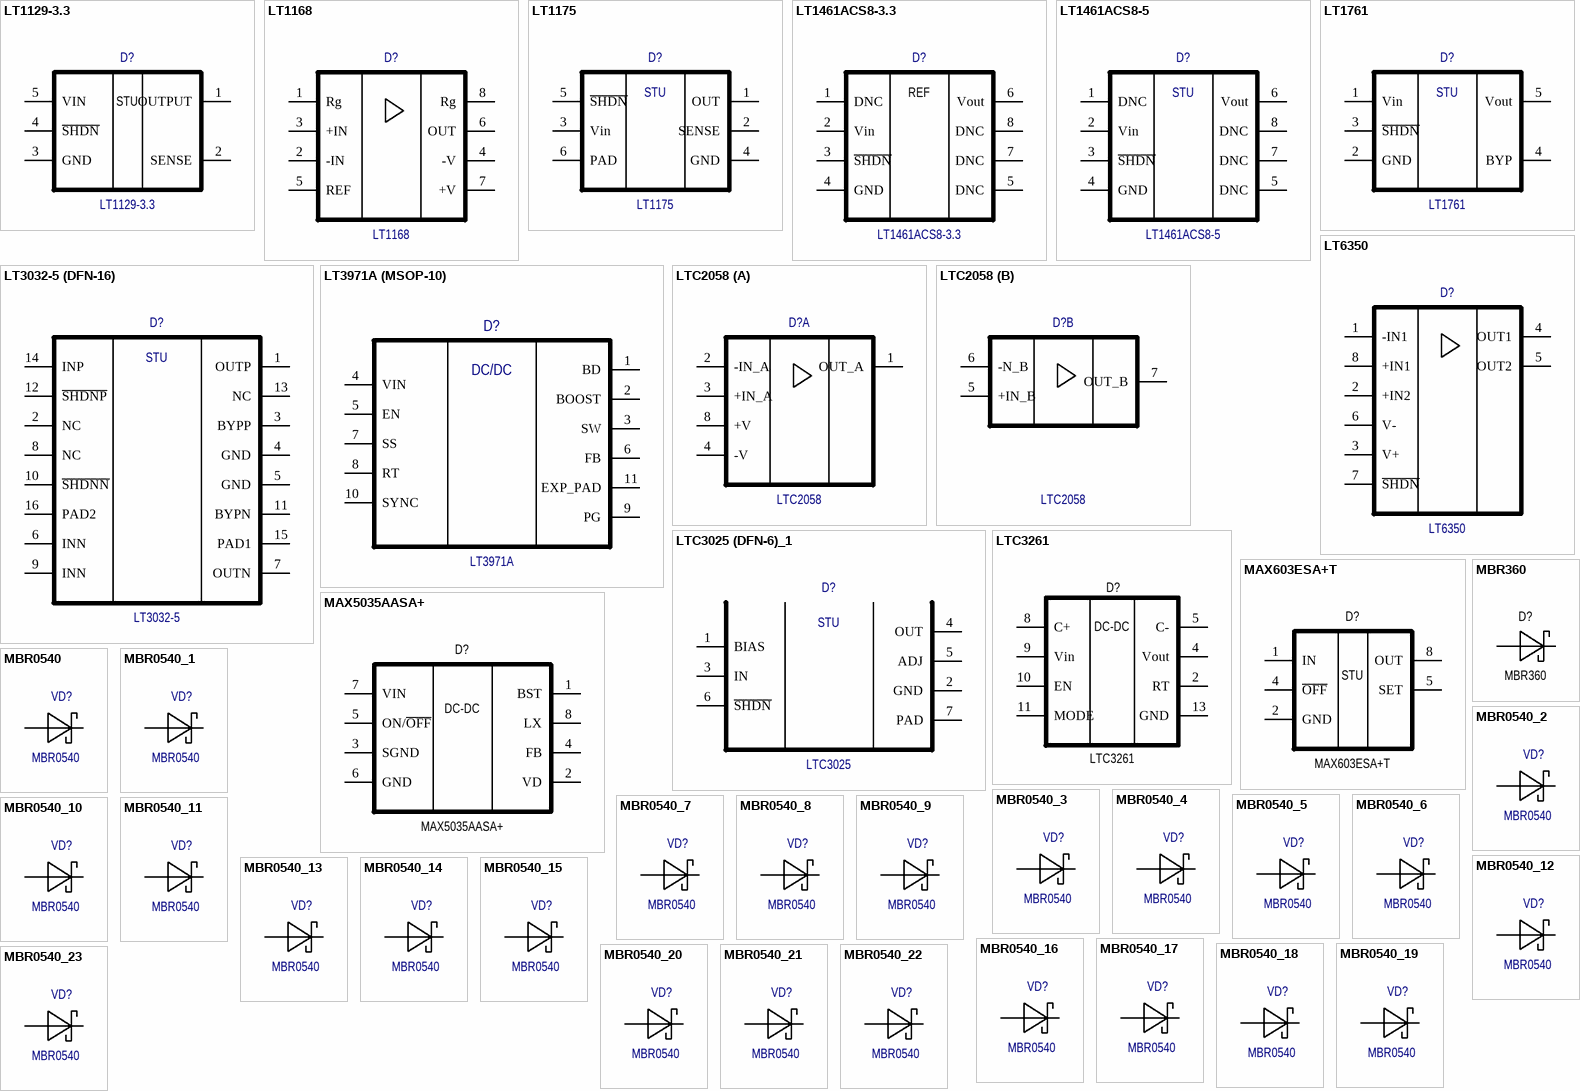
[diagram p5: symbols LT1129-3.3 to MBR0540_23]

## LT1129-3.3
designator D?
pins: 1 OUTPUT, 2 SENSE, 3 GND, 4 ~{SHDN}, 5 VIN
text: STU

## LT1168
designator D?, comment value LT1168  (hidden comment: LT1168CS8 (SOIC-8) Linear Technology)
Company: Linear Technology; PartNumber: LT1168CS8; Package: SOIC-8
pins: 1 Rg, 2 -IN, 3 +IN, 4 -V, 5 REF, 6 OUT, 7 +V, 8 Rg

## LT1175
designator D?, comment value LT1175  (hidden comment: LT1175CQ (DD-PAK-5) Linear Technology)
Company: Linear Technology; PartNumber: LT1175CQ; Package: DD-PAK-5
pins: 1 OUT, 2 SENSE, 3 Vin, 4 GND, 5 ~{SHDN}, 6 PAD
text: STU

## LT1461ACS8-3.3
designator D?, comment value LT1461ACS8-3.3  (hidden comment: LT1461ACS8-3.3 (SOIC-8) Linear Technology)
Company: Linear Technology; PartNumber: LT1461ACS8-3.3; Package: SOIC-8
pins: 1 DNC, 2 Vin, 3 ~{SHDN}, 4 GND, 5 DNC, 6 Vout, 7 DNC, 8 DNC
text: REF

## LT1461ACS8-5
designator D?, comment value LT1461ACS8-5  (hidden comment: LT1461ACS8-5 (SOIC-8) Linear Technology)
Company: Linear Technology; PartNumber: LT1461ACS8-5; Package: SOIC-8
pins: 1 DNC, 2 Vin, 3 ~{SHDN}, 4 GND, 5 DNC, 6 Vout, 7 DNC, 8 DNC
text: STU

## LT1761
designator D?, comment value LT1761  (hidden comment: LT1761ES5-2.5 (TSOT-23) Linear Technology)
Company: Linear Technology; PartNumber: LT1761ES5-2.5; Package: TSOT-23
pins: 1 Vin, 2 GND, 3 ~{SHDN}, 4 BYP, 5 Vout
text: STU

## LT3032-5 (DFN-16)
designator D?, comment LT3032-5
Company: Linear Technology; PartNumber: *; Package: DFN-16; Value: LT3032-5
footprint QFN50P400X300X80-14N (QFN, 14-Leads, Body 4,00x3,00mm, Pitch 0,50mm, IPC Medium Density)
pins: 1 OUTP, 2 NC, 3 BYPP, 4 GND, 5 GND, 6 INN, 7 OUTN, 8 NC, 9 INN, 10 ~{SHDNN}, 11 BYPN, 12 ~{SHDNP}, 13 NC, 14 INP, 15 PAD1, 16 PAD2
text: STU

## LT3971A (MSOP-10)
designator D?  value LT3971A  (hidden comment: LT3971A (MSOP-10))
Company: Linear Technology; Package: MSOP-10; PartNumber: *
footprint MS10 - pad (Shrink Small Outline; 10 Leads; Body Width 3 mm; Pitch 0.5 mm)
pins: 1 BD, 2 BOOST, 3 SW, 4 VIN, 5 EN, 6 FB, 7 SS, 8 RT, 9 PG, 10 SYNC, 11 EXP_PAD
text: DC/DC

## LT6350
designator D?, comment value LT6350  (hidden comment: LT6350IMS8 (MSOP-8) Linear Technology)
Company: Linear Technology; PartNumber: LT6350IMS8; Package: MSOP-8
pins: 1 -IN1, 2 +IN2, 3 V+, 4 OUT1, 5 OUT2, 6 V-, 7 ~{SHDN}, 8 +IN1

## LTC2058
designator D?, comment value LTC2058  (hidden comment: LTC2058IS8E (SOIC-8) Analog Devices)
Company: Analog Devices; PartNumber: LTC2058IS8E; Package: SOIC-8
part A pins: 1 OUT_A, 2 -IN_A, 3 +IN_A, 4 -V, 8 +V
part B pins: 5 +IN_B, 6 -N_B, 7 OUT_B

## LTC3025 (DFN-6)_1
designator D?, comment LTC3025
Company: Linear Technology; PartNumber: *; Package: DFN-6; Value: LTC3025
footprint QFN50P200X200X80_HS-7N (QFN, 6-Leads, Body 2,00x2,00mm, Pitch 0,50mm, Thermal Pad 1,45x0,60mm, IPC Medium Density)
pins: 1 BIAS, 2 GND, 3 IN, 4 OUT, 5 ADJ, 6 ~{SHDN}, 7 PAD
text: STU

## LTC3261
designator D?
pins: 2 RT, 4 Vout, 5 C-, 8 C+, 9 Vin, 10 EN, 11 MODE, 13 GND
text: DC-DC

## MAX603ESA+T
designator D?
pins: 1 IN, 2 GND, 4 ~{OFF}, 5 SET, 8 OUT
text: STU

## MAX5035AASA+
designator D?
pins: 1 BST, 2 VD, 3 SGND, 4 FB, 5 ON/~{OFF}, 6 GND, 7 VIN, 8 LX
text: DC-DC

## MBR360
designator D?
pins: 1 A, 1 C

## MBR0540
designator VD?
Company: International Rectifier; PartNumber: MBR0540; Package: SOD-123; Value: MBR0540
pins: 1 A, 1 C

## MBR0540_1
designator VD?, comment MBR0540
Company: International Rectifier; PartNumber: MBR0540; Package: SOD-123; Value: MBR0540
pins: 1 A, 1 C

## MBR0540_2
designator VD?, comment MBR0540
Company: International Rectifier; PartNumber: MBR0540; Package: SOD-123; Value: MBR0540
pins: 1 A, 1 C

## MBR0540_3
designator VD?, comment MBR0540
Company: International Rectifier; PartNumber: MBR0540; Package: SOD-123; Value: MBR0540
pins: 1 A, 1 C

## MBR0540_4
designator VD?, comment MBR0540
Company: International Rectifier; PartNumber: MBR0540; Package: SOD-123; Value: MBR0540
pins: 1 A, 1 C

## MBR0540_5
designator VD?, comment MBR0540
Company: International Rectifier; PartNumber: MBR0540; Package: SOD-123; Value: MBR0540
pins: 1 A, 1 C

## MBR0540_6
designator VD?, comment MBR0540
Company: International Rectifier; PartNumber: MBR0540; Package: SOD-123; Value: MBR0540
pins: 1 A, 1 C

## MBR0540_7
designator VD?, comment MBR0540
Company: International Rectifier; PartNumber: MBR0540; Package: SOD-123; Value: MBR0540
pins: 1 A, 1 C

## MBR0540_8
designator VD?, comment MBR0540
Company: International Rectifier; PartNumber: MBR0540; Package: SOD-123; Value: MBR0540
pins: 1 A, 1 C

## MBR0540_9
designator VD?, comment MBR0540
Company: International Rectifier; PartNumber: MBR0540; Package: SOD-123; Value: MBR0540
pins: 1 A, 1 C

## MBR0540_10
designator VD?, comment MBR0540
Company: International Rectifier; PartNumber: MBR0540; Package: SOD-123; Value: MBR0540
pins: 1 A, 1 C

## MBR0540_11
designator VD?, comment MBR0540
Company: International Rectifier; PartNumber: MBR0540; Package: SOD-123; Value: MBR0540
pins: 1 A, 1 C

## MBR0540_12
designator VD?, comment MBR0540
Company: International Rectifier; PartNumber: MBR0540; Package: SOD-123; Value: MBR0540
pins: 1 A, 1 C

## MBR0540_13
designator VD?, comment MBR0540
Company: International Rectifier; PartNumber: MBR0540; Package: SOD-123; Value: MBR0540
pins: 1 A, 1 C

## MBR0540_14
designator VD?, comment MBR0540
Company: International Rectifier; PartNumber: MBR0540; Package: SOD-123; Value: MBR0540
pins: 1 A, 1 C

## MBR0540_15
designator VD?, comment MBR0540
Company: International Rectifier; PartNumber: MBR0540; Package: SOD-123; Value: MBR0540
pins: 1 A, 1 C

## MBR0540_16
designator VD?, comment MBR0540
Company: International Rectifier; PartNumber: MBR0540; Package: SOD-123; Value: MBR0540
pins: 1 A, 1 C

## MBR0540_17
designator VD?, comment MBR0540
Company: International Rectifier; PartNumber: MBR0540; Package: SOD-123; Value: MBR0540
pins: 1 A, 1 C

## MBR0540_18
designator VD?, comment MBR0540
Company: International Rectifier; PartNumber: MBR0540; Package: SOD-123; Value: MBR0540
pins: 1 A, 1 C

## MBR0540_19
designator VD?, comment MBR0540
Company: International Rectifier; PartNumber: MBR0540; Package: SOD-123; Value: MBR0540
pins: 1 A, 1 C

## MBR0540_20
designator VD?, comment MBR0540
Company: International Rectifier; PartNumber: MBR0540; Package: SOD-123; Value: MBR0540
pins: 1 A, 1 C

## MBR0540_21
designator VD?, comment MBR0540
Company: International Rectifier; PartNumber: MBR0540; Package: SOD-123; Value: MBR0540
pins: 1 A, 1 C

## MBR0540_22
designator VD?, comment MBR0540
Company: International Rectifier; PartNumber: MBR0540; Package: SOD-123; Value: MBR0540
pins: 1 A, 1 C

## MBR0540_23
designator VD?, comment MBR0540
Company: International Rectifier; PartNumber: MBR0540; Package: SOD-123; Value: MBR0540
pins: 1 A, 1 C

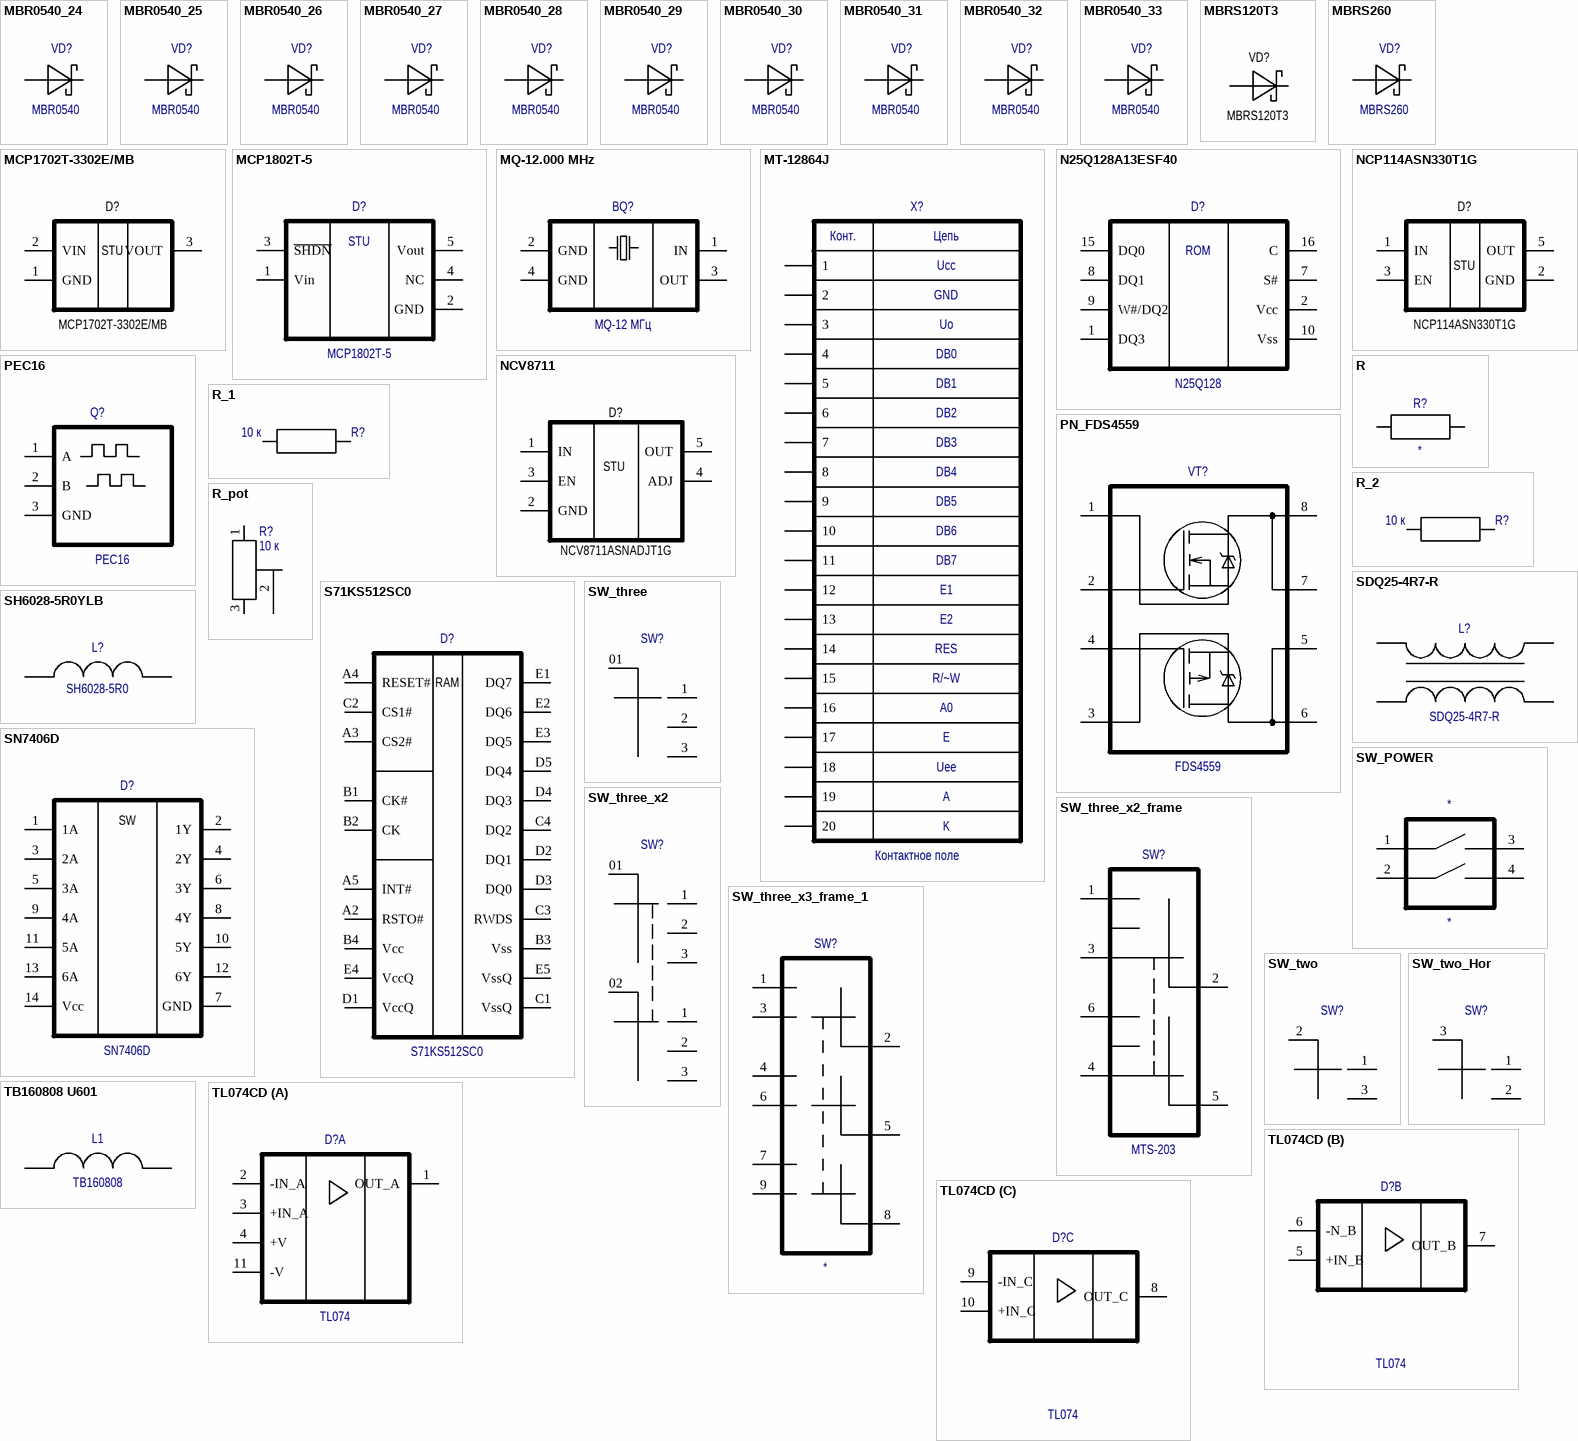
[diagram p6: symbols MBR0540_24 to TL074CD]

## MBR0540_24
designator VD?, comment MBR0540
Company: International Rectifier; PartNumber: MBR0540; Package: SOD-123; Value: MBR0540
pins: 1 A, 1 C

## MBR0540_25
designator VD?, comment MBR0540
Company: International Rectifier; PartNumber: MBR0540; Package: SOD-123; Value: MBR0540
pins: 1 A, 1 C

## MBR0540_26
designator VD?, comment MBR0540
Company: International Rectifier; PartNumber: MBR0540; Package: SOD-123; Value: MBR0540
pins: 1 A, 1 C

## MBR0540_27
designator VD?, comment MBR0540
Company: International Rectifier; PartNumber: MBR0540; Package: SOD-123; Value: MBR0540
pins: 1 A, 1 C

## MBR0540_28
designator VD?, comment MBR0540
Company: International Rectifier; PartNumber: MBR0540; Package: SOD-123; Value: MBR0540
pins: 1 A, 1 C

## MBR0540_29
designator VD?, comment MBR0540
Company: International Rectifier; PartNumber: MBR0540; Package: SOD-123; Value: MBR0540
pins: 1 A, 1 C

## MBR0540_30
designator VD?, comment MBR0540
Company: International Rectifier; PartNumber: MBR0540; Package: SOD-123; Value: MBR0540
pins: 1 A, 1 C

## MBR0540_31
designator VD?, comment MBR0540
Company: International Rectifier; PartNumber: MBR0540; Package: SOD-123; Value: MBR0540
pins: 1 A, 1 C

## MBR0540_32
designator VD?, comment MBR0540
Company: International Rectifier; PartNumber: MBR0540; Package: SOD-123; Value: MBR0540
pins: 1 A, 1 C

## MBR0540_33
designator VD?, comment MBR0540
Company: International Rectifier; PartNumber: MBR0540; Package: SOD-123; Value: MBR0540
pins: 1 A, 2 C

## MBRS120T3
designator VD?
pins: 1 A, 1 C

## MBRS260
designator VD?
PartNumber: MBRS260T3G; Company: ON Semiconductor; Package: SMB; Supplier 1: Farnell; Supplier Part Number 1: 1459074RL; Value: MBRS260
pins: 1 A, 2 C

## MCP1702T-3302E/MB
designator D?
pins: 1 GND, 2 VIN, 3 VOUT
text: STU

## MCP1802T-5
designator D?, comment value MCP1802T-5  (hidden comment: MCP1802T-5002I/OT (SOT23-5) Microchip Technology)
Company: Microchip Technology; PartNumber: MCP1802T-5002I/OT; Package: SOT23-5
pins: 1 Vin, 2 GND, 3 ~{SHDN}, 4 NC, 5 Vout
text: STU

## MQ-12.000 MHz
designator BQ?  value MQ-12 МГц  (hidden comment: *)
PartNumber: MQ-12.000-18; Company: Mercury; Package: 0705
pins: 1 IN, 2 GND, 3 OUT, 4 GND

## MT-12864J
designator X?  value Контактное поле  10: DB6  11: DB7  12: E1  13: E2  14: RES  16: A0  17: E  15: R/~W  18: Uee  19: A  20: K  1: Ucc  2: GND  3: Uo  6: DB2  7: DB3  8: DB4  9: DB5  4: DB0  5: DB1
pins: 1, 2, 3, 4, 5, 6, 7, 8, 9, 10, 11, 12, 13, 14, 15, 16, 17, 18, 19, 20
text: Конт.; Цепь

## N25Q128A13ESF40
designator D?  value N25Q128  (hidden comment: *)
PartNumber: N25Q128A13ESF40; Company: Micron; Package: SOIC-16
pins: 1 DQ3, 2 Vcc, 7 S#, 8 DQ1, 9 W#/DQ2, 10 Vss, 15 DQ0, 16 C
text: ROM

## NCP114ASN330T1G
designator D?
pins: 1 IN, 2 GND, 3 EN, 5 OUT
text: STU

## NCV8711
designator D?, comment NCV8711ASNADJT1G
pins: 1 IN, 2 GND, 3 EN, 4 ADJ, 5 OUT
text: STU

## PEC16
designator Q?
PartNumber: PEC16-2215F-N0024; Company: Bourns; Value: PEC16
pins: 1 A, 2 B, 3 GND

## PN_FDS4559
designator VT?  value FDS4559
Company: Fairchild semiconductor; Package: SOIC-8; PartNumber: FDS4559
pins: 1 S1, 2 G1, 3 D2, 4 S2, 5 G2, 6 D1, 7 D1, 8 D1

## R
designator R?
Company: *; PartNumber: *; Package: *; Tolerance: *; Value: *
pins: 1, 2

## R_1
designator R?  value 10 к
Company: *; PartNumber: *; Package: *; Tolerance: *
pins: 1, 2

## R_2
designator R?  value 10 к
Company: *; PartNumber: *; Package: *; Tolerance: *
pins: 1, 2

## R_pot
designator R?  value 10 к
PartNumber: 3296W-1-103LF; Company: Bourns; Tolerance: 20%
pins: 1, 2, 3

## S71KS512SC0
designator D?, comment Partnumber: S71KS512SC0  (hidden comment: S71KS512SC0 FBGA 24-Ball, 5x5)
Company: Cypres; Value: S71KS512SC0; Package: FBGA 24-Ball, 5x5
pins: A2 RSTO#, A3 CS2#, A4 RESET#, A5 INT#, B1 CK#, B2 CK, B3 Vss, B4 Vcc, C1 VssQ, C2 CS1#, C3 RWDS, C4 DQ2, D1 VccQ, D2 DQ1, D3 DQ0, D4 DQ3, D5 DQ4, E1 DQ7, E2 DQ6, E3 DQ5, E4 VccQ, E5 VssQ
text: RAM

## SDQ25-4R7-R
designator L?
Company: Coiltronics; Value: SDQ25; tolerance: 20%; CurrentMax: 1,96А; PartNumber: SDQ25-4R7-R; Package: ?
pins: 1, 2, 3, 4

## SH6028-5R0YLB
designator L?  value SH6028-5R0  (hidden comment: SH6028-5R0YLB)
Company: ABC Electronics Group; tolerance: 30%; CurrentMax: 2,4А; PartNumber: SH6028-5R0YLB; Package: *
pins: 1, 2

## SN7406D
designator D?, comment value SN7406D  (hidden comment: SN7406D (SOIC-14) Texas Instruments)
Company: Texas Instruments; PartNumber: SN7406D; Package: SOIC-14
pins: 1 1A, 2 1Y, 3 2A, 4 2Y, 5 3A, 6 3Y, 7 GND, 8 4Y, 9 4A, 10 5Y, 11 5A, 12 6Y, 13 6A, 14 Vcc
text: SW

## SW_POWER
designator *
pins: 1, 2, 3, 4

## SW_three
designator SW?  (value not drawn)
pins: 1, 01, 2, 3

## SW_three_x2
designator SW?  (value not drawn)
pins: 1, 01, 1, 2, 2, 02 5, 3, 3

## SW_three_x2_frame
designator SW?, comment value MTS-203  (hidden comment: Тумблер MTS-203 Jietong Switch)
Company: Jietong Switch; PartNumber: MTS-203
pins: 1, 2, 3, 4, 5, 6

## SW_three_x3_frame_1
designator SW?, comment Тумблер * Jietong Switch  (value not drawn)
Company: Jietong Switch; PartNumber: *; Value: *
pins: 1, 2, 3, 4, 5, 6, 7, 8, 9

## SW_two
designator SW?  (value not drawn)
pins: 1, 2, 3

## SW_two_Hor
designator SW?  (value not drawn)
pins: 1, 2, 3

## TB160808 U601
designator L1, comment value TB160808  (hidden comment: TB160808 (0603) Tecstar)
TB160808 U601; Company: Tecstar; PartNumber: TB160808 U601; Package: 0603
footprint INDUCTOR 0603
footprint INDUCTOR 0603
pins: 1, 2

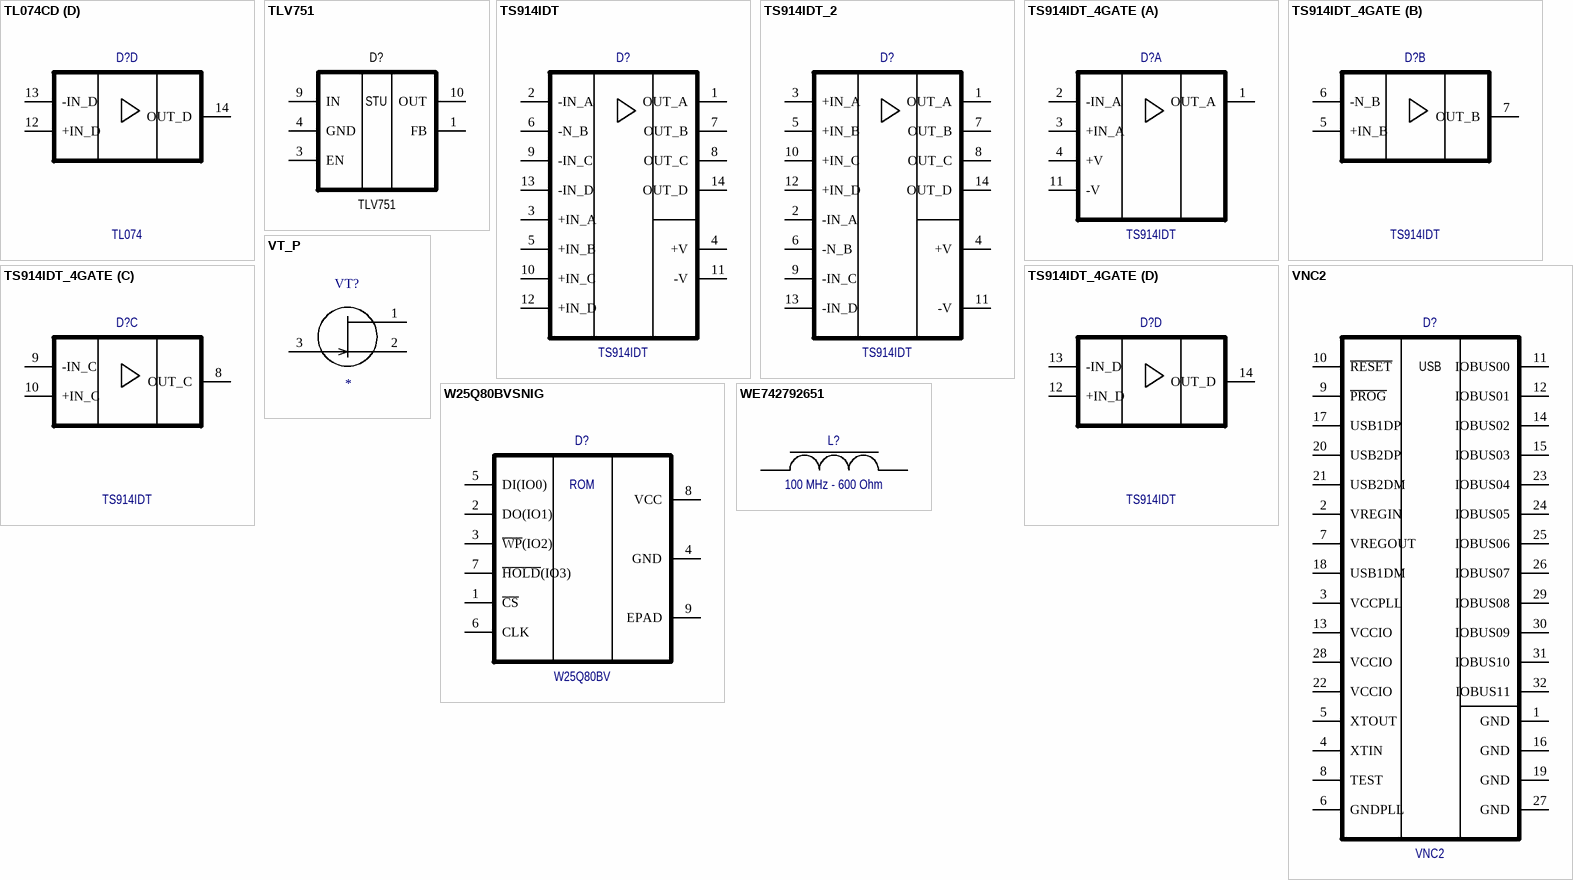
[diagram p7: symbols TL074CD to WE742792651]

## TL074CD
designator D?, comment value TL074  (hidden comment: TL074CD (SO-14) Texas Instruments)
Company: Texas Instruments; PartNumber: TL074CD; Package: SO-14
part A pins: 1 OUT_A, 2 -IN_A, 3 +IN_A, 4 +V, 11 -V
part B pins: 5 +IN_B, 6 -N_B, 7 OUT_B
part C pins: 8 OUT_C, 9 -IN_C, 10 +IN_C
part D pins: 12 +IN_D, 13 -IN_D, 14 OUT_D

## TLV751
designator D?
pins: 1 FB, 3 EN, 4 GND, 9 IN, 10 OUT
text: STU

## TS914IDT
designator D?, comment value TS914IDT  (hidden comment: TS914IDT (SOIC-14) STMicroelectronics)
Company: STMicroelectronics; PartNumber: TS914IDT; Package: SOIC-14
pins: 1 OUT_A, 2 -IN_A, 3 +IN_A, 4 +V, 5 +IN_B, 6 -N_B, 7 OUT_B, 8 OUT_C, 9 -IN_C, 10 +IN_C, 11 -V, 12 +IN_D, 13 -IN_D, 14 OUT_D

## TS914IDT_2
designator D?, comment value TS914IDT  (hidden comment: TS914IDT (SOIC-14) STMicroelectronics)
Company: STMicroelectronics; PartNumber: TS914IDT; Package: SOIC-14
pins: 1 OUT_A, 2 -IN_A, 3 +IN_A, 4 +V, 5 +IN_B, 6 -N_B, 7 OUT_B, 8 OUT_C, 9 -IN_C, 10 +IN_C, 11 -V, 12 +IN_D, 13 -IN_D, 14 OUT_D

## TS914IDT_4GATE
designator D?, comment value TS914IDT  (hidden comment: TS914IDT (SOIC-14) STMicroelectronics)
Company: STMicroelectronics; PartNumber: TS914IDT; Package: SOIC-14
part A pins: 1 OUT_A, 2 -IN_A, 3 +IN_A, 4 +V, 11 -V
part B pins: 5 +IN_B, 6 -N_B, 7 OUT_B
part C pins: 8 OUT_C, 9 -IN_C, 10 +IN_C
part D pins: 12 +IN_D, 13 -IN_D, 14 OUT_D

## VNC2
designator D?  value VNC2  (hidden comment: *)
PartNumber: VNC2-32L1B; Company: FTDI; Package: LQFP-32
pins: 1 GND, 2 VREGIN, 3 VCCPLL, 4 XTIN, 5 XTOUT, 6 GNDPLL, 7 VREGOUT, 8 TEST, 9 ~{PROG}, 10 ~{RESET}, 11 IOBUS00, 12 IOBUS01, 13 VCCIO, 14 IOBUS02, 15 IOBUS03, 16 GND, 17 USB1DP, 18 USB1DM, 19 GND, 20 USB2DP, 21 USB2DM, 22 VCCIO, 23 IOBUS04, 24 IOBUS05, 25 IOBUS06, 26 IOBUS07, 27 GND, 28 VCCIO, 29 IOBUS08, 30 IOBUS09, 31 IOBUS10, 32 IOBUS11
text: USB

## VT_P
designator VT?
VT
pins: 1, 2, 3

## W25Q80BVSNIG
designator D?  value W25Q80BV  (hidden comment: *)
PartNumber: W25Q80BVSNIG; Company: Winbond; Package: SOIC-8
footprint SO8_L (8-Pin Small Outline Integrated Circuit 1.27 mm Pitch, IPC High Density)
pins: 1 ~{CS}, 2 DO(IO1), 3 ~{WP}(IO2), 4 GND, 5 DI(IO0), 6 CLK, 7 ~{HOLD}(IO3), 8 VCC, 9 EPAD
text: ROM

## WE742792651
designator L?, comment value 100 MHz - 600 Ohm  (hidden comment: 100 MHz - 600 Ohm (0603) Wurth Electronics)
TB160808 U601; PartNumber: 742792651; Company: Wurth Electronics; Package: 0603
footprint INDUCTOR 0603
footprint INDUCTOR 0603
pins: 1, 2

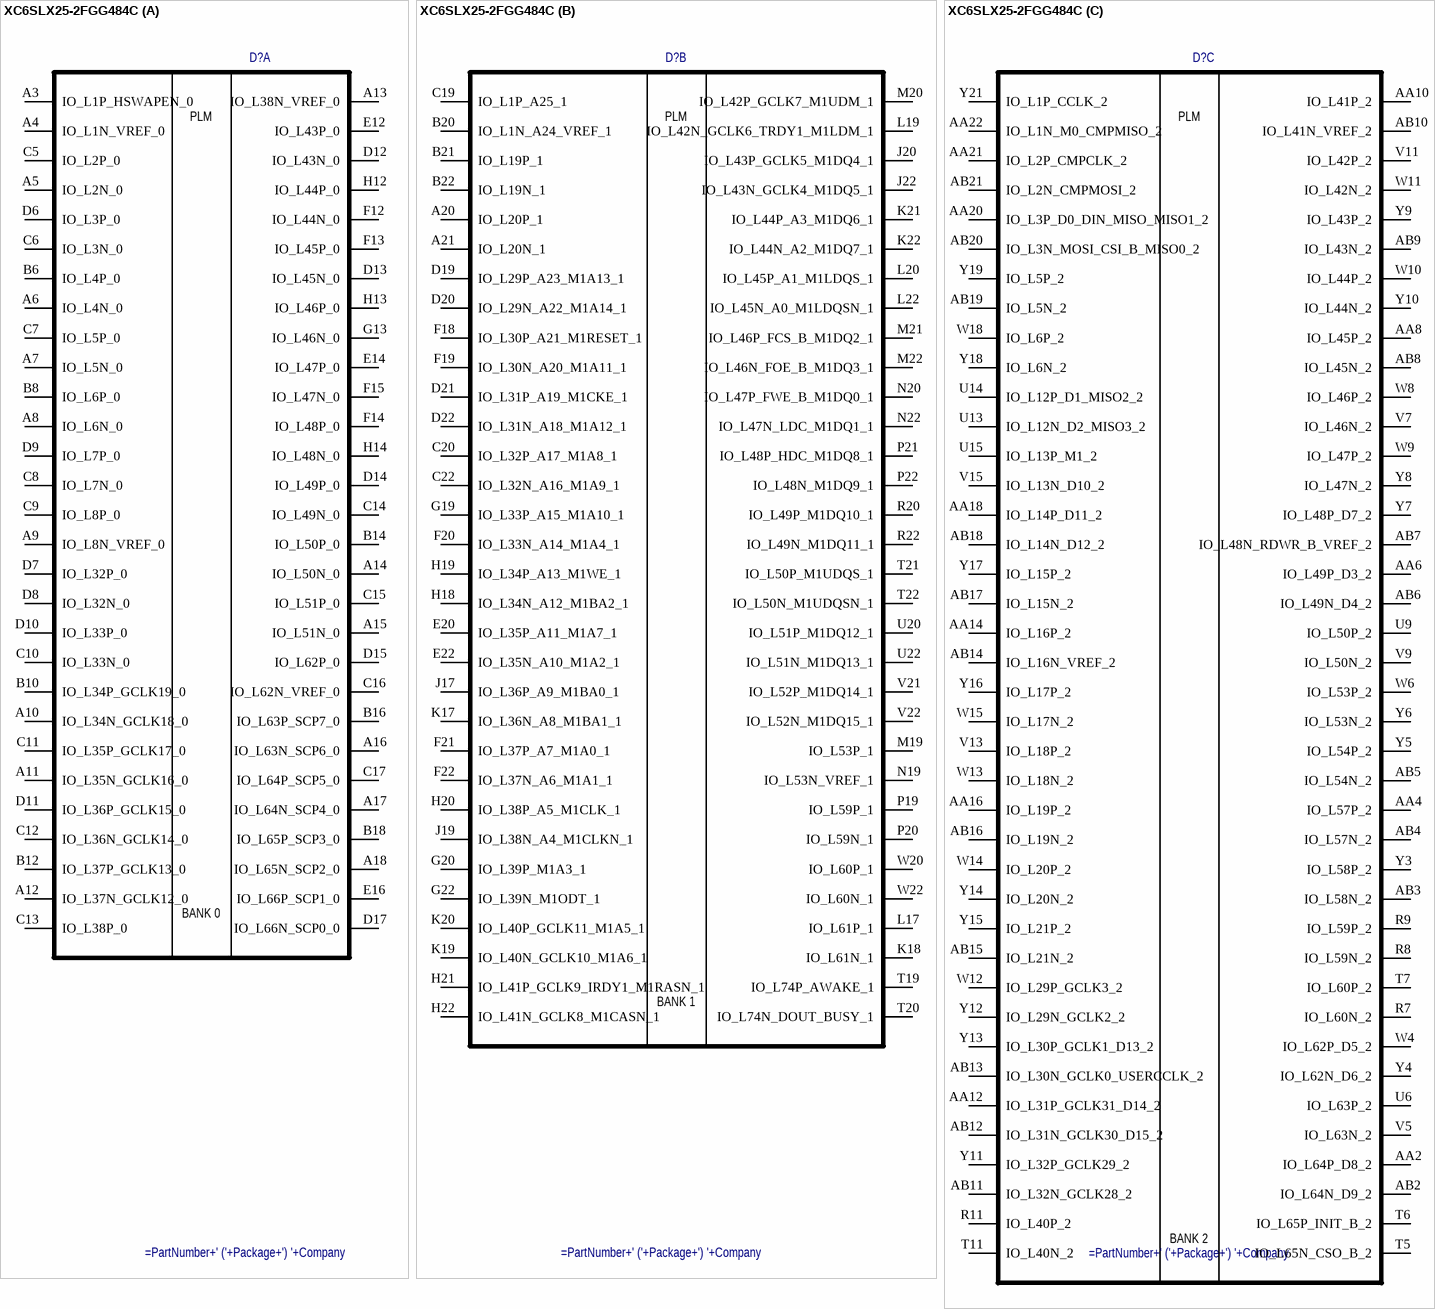
[diagram p8: symbol XC6SLX25-2FGG484C]

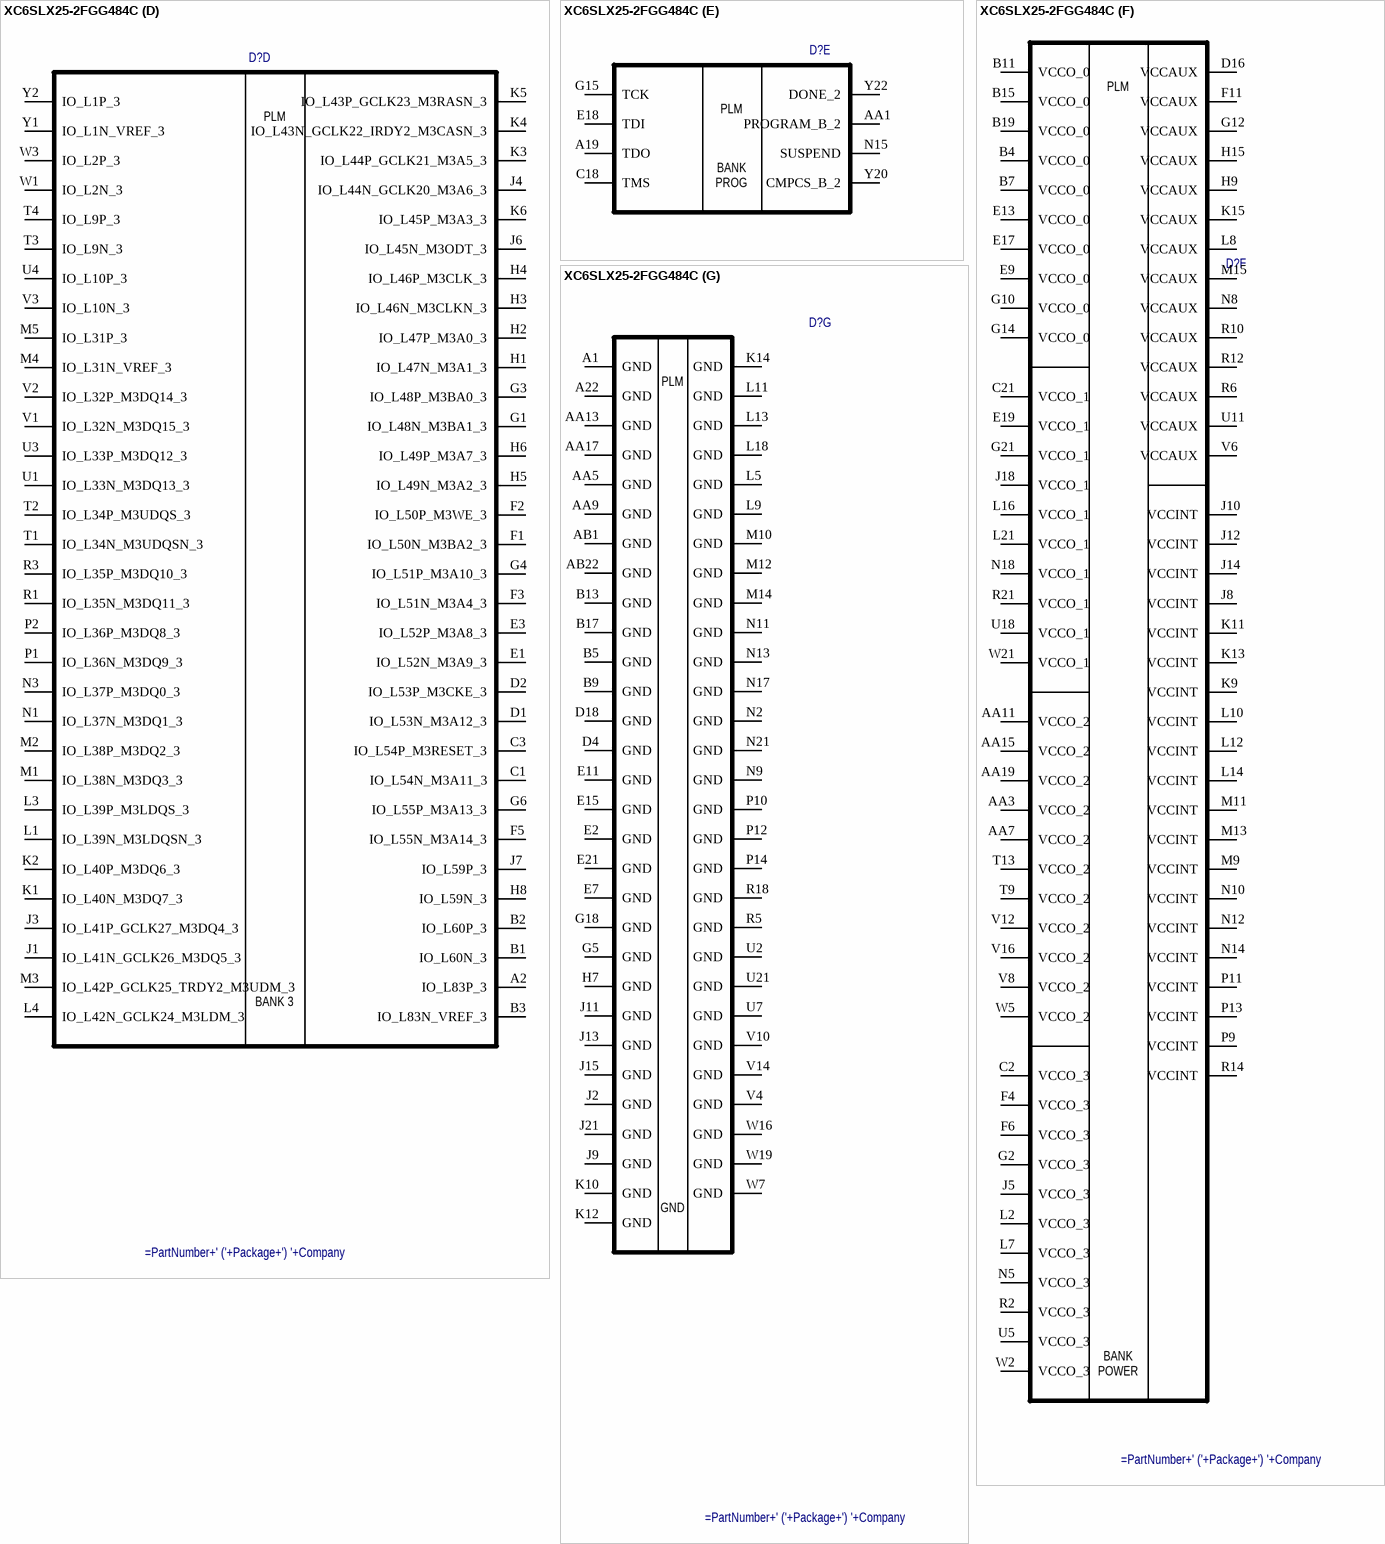
[diagram p9: symbol XC6SLX25-2FGG484C]

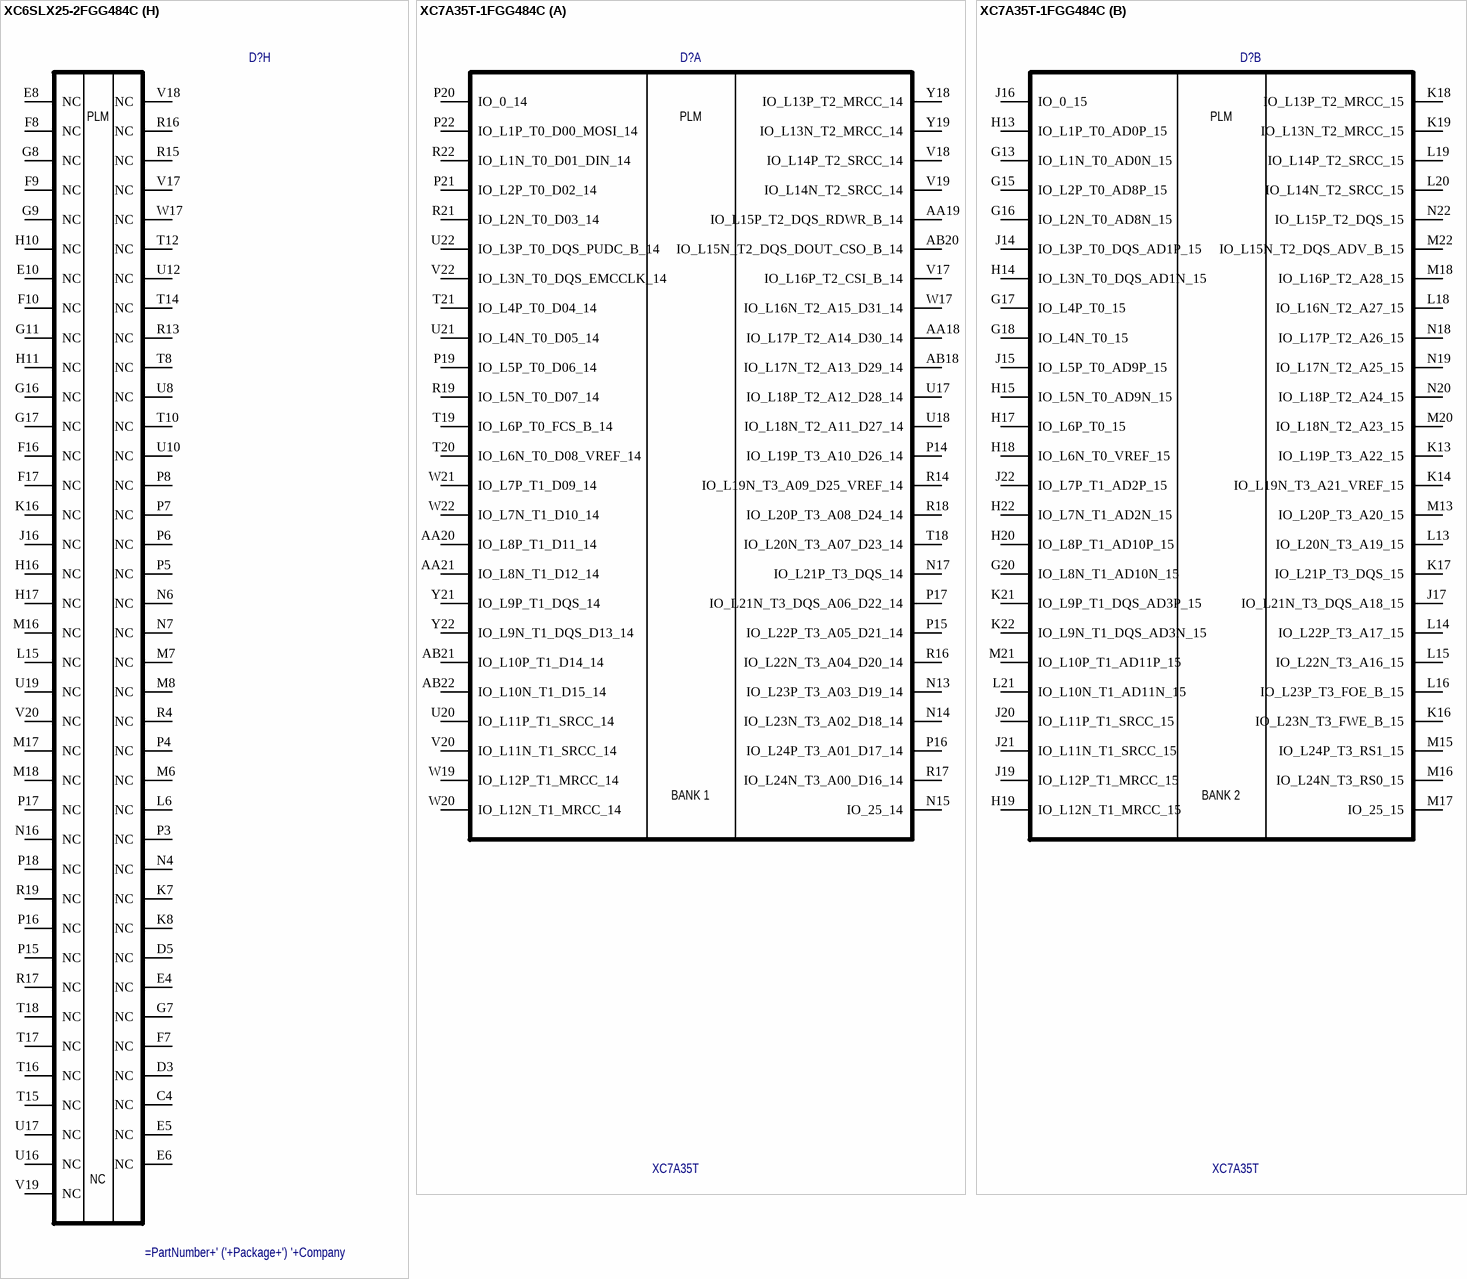
[diagram p10: symbols XC6SLX25-2FGG484C to XC7A35T-1FGG484C]

## XC6SLX25-2FGG484C
designator D?
Spartan-6 LX 1.2V FPGA, 266 User I/Os, 484-Ball Fine-Pitch BGA (1.0mm Pitch), Speed Grade 2, Commercial Grade, Pb-Free; Value: XC6SLX25; Company: Xilinx; PurtNamber: XC6SLX25-2FGG484C; Package: FGG484
footprint FGG484 (BGA, 484-Leads, Body 23x23mm, Pitch 1mm)
signal-integrity model XC6SLX25_FGG484 (Spartan-6)
part A pins: A3 IO_L1P_HSWAPEN_0, A4 IO_L1N_VREF_0, A5 IO_L2N_0, A6 IO_L4N_0, A7 IO_L5N_0, A8 IO_L6N_0, A9 IO_L8N_VREF_0, A10 IO_L34N_GCLK18_0, A11 IO_L35N_GCLK16_0, A12 IO_L37N_GCLK12_0, A13 IO_L38N_VREF_0, A14 IO_L50N_0, A15 IO_L51N_0, A16 IO_L63N_SCP6_0, A17 IO_L64N_SCP4_0, A18 IO_L65N_SCP2_0, B6 IO_L4P_0, B8 IO_L6P_0, B10 IO_L34P_GCLK19_0, B12 IO_L37P_GCLK13_0, B14 IO_L50P_0, B16 IO_L63P_SCP7_0, B18 IO_L65P_SCP3_0, C5 IO_L2P_0, C6 IO_L3N_0, C7 IO_L5P_0, C8 IO_L7N_0, C9 IO_L8P_0, C10 IO_L33N_0, C11 IO_L35P_GCLK17_0, C12 IO_L36N_GCLK14_0, C13 IO_L38P_0, C14 IO_L49N_0, C15 IO_L51P_0, C16 IO_L62N_VREF_0, C17 IO_L64P_SCP5_0, D6 IO_L3P_0, D7 IO_L32P_0, D8 IO_L32N_0, D9 IO_L7P_0, D10 IO_L33P_0, D11 IO_L36P_GCLK15_0, D12 IO_L43N_0, D13 IO_L45N_0, D14 IO_L49P_0, D15 IO_L62P_0, D17 IO_L66N_SCP0_0, E12 IO_L43P_0, E14 IO_L47P_0, E16 IO_L66P_SCP1_0, F12 IO_L44N_0, F13 IO_L45P_0, F14 IO_L48P_0, F15 IO_L47N_0, G13 IO_L46N_0, H12 IO_L44P_0, H13 IO_L46P_0, H14 IO_L48N_0
part B pins: A20 IO_L20P_1, A21 IO_L20N_1, B20 IO_L1N_A24_VREF_1, B21 IO_L19P_1, B22 IO_L19N_1, C19 IO_L1P_A25_1, C20 IO_L32P_A17_M1A8_1, C22 IO_L32N_A16_M1A9_1, D19 IO_L29P_A23_M1A13_1, D20 IO_L29N_A22_M1A14_1, D21 IO_L31P_A19_M1CKE_1, D22 IO_L31N_A18_M1A12_1, E20 IO_L35P_A11_M1A7_1, E22 IO_L35N_A10_M1A2_1, F18 IO_L30P_A21_M1RESET_1, F19 IO_L30N_A20_M1A11_1, F20 IO_L33N_A14_M1A4_1, F21 IO_L37P_A7_M1A0_1, F22 IO_L37N_A6_M1A1_1, G19 IO_L33P_A15_M1A10_1, G20 IO_L39P_M1A3_1, G22 IO_L39N_M1ODT_1, H18 IO_L34N_A12_M1BA2_1, H19 IO_L34P_A13_M1WE_1, H20 IO_L38P_A5_M1CLK_1, H21 IO_L41P_GCLK9_IRDY1_M1RASN_1, H22 IO_L41N_GCLK8_M1CASN_1, J17 IO_L36P_A9_M1BA0_1, J19 IO_L38N_A4_M1CLKN_1, J20 IO_L43P_GCLK5_M1DQ4_1, J22 IO_L43N_GCLK4_M1DQ5_1, K17 IO_L36N_A8_M1BA1_1, K18 IO_L61N_1, K19 IO_L40N_GCLK10_M1A6_1, K20 IO_L40P_GCLK11_M1A5_1, K21 IO_L44P_A3_M1DQ6_1, K22 IO_L44N_A2_M1DQ7_1, L17 IO_L61P_1, L19 IO_L42N_GCLK6_TRDY1_M1LDM_1, L20 IO_L45P_A1_M1LDQS_1, L22 IO_L45N_A0_M1LDQSN_1, M19 IO_L53P_1, M20 IO_L42P_GCLK7_M1UDM_1, M21 IO_L46P_FCS_B_M1DQ2_1, M22 IO_L46N_FOE_B_M1DQ3_1, N19 IO_L53N_VREF_1, N20 IO_L47P_FWE_B_M1DQ0_1, N22 IO_L47N_LDC_M1DQ1_1, P19 IO_L59P_1, P20 IO_L59N_1, P21 IO_L48P_HDC_M1DQ8_1, P22 IO_L48N_M1DQ9_1, R20 IO_L49P_M1DQ10_1, R22 IO_L49N_M1DQ11_1, T19 IO_L74P_AWAKE_1, T20 IO_L74N_DOUT_BUSY_1, T21 IO_L50P_M1UDQS_1, T22 IO_L50N_M1UDQSN_1, U20 IO_L51P_M1DQ12_1, U22 IO_L51N_M1DQ13_1, V21 IO_L52P_M1DQ14_1, V22 IO_L52N_M1DQ15_1, W20 IO_L60P_1, W22 IO_L60N_1
part C pins: AA2 IO_L64P_D8_2, AA4 IO_L57P_2, AA6 IO_L49P_D3_2, AA8 IO_L45P_2, AA10 IO_L41P_2, AA12 IO_L31P_GCLK31_D14_2, AA14 IO_L16P_2, AA16 IO_L19P_2, AA18 IO_L14P_D11_2, AA20 IO_L3P_D0_DIN_MISO_MISO1_2, AA21 IO_L2P_CMPCLK_2, AA22 IO_L1N_M0_CMPMISO_2, AB2 IO_L64N_D9_2, AB3 IO_L58N_2, AB4 IO_L57N_2, AB5 IO_L54N_2, AB6 IO_L49N_D4_2, AB7 IO_L48N_RDWR_B_VREF_2, AB8 IO_L45N_2, AB9 IO_L43N_2, AB10 IO_L41N_VREF_2, AB11 IO_L32N_GCLK28_2, AB12 IO_L31N_GCLK30_D15_2, AB13 IO_L30N_GCLK0_USERCCLK_2, AB14 IO_L16N_VREF_2, AB15 IO_L21N_2, AB16 IO_L19N_2, AB17 IO_L15N_2, AB18 IO_L14N_D12_2, AB19 IO_L5N_2, AB20 IO_L3N_MOSI_CSI_B_MISO0_2, AB21 IO_L2N_CMPMOSI_2, R7 IO_L60N_2, R8 IO_L59N_2, R9 IO_L59P_2, R11 IO_L40P_2, T5 IO_L65N_CSO_B_2, T6 IO_L65P_INIT_B_2, T7 IO_L60P_2, T11 IO_L40N_2, U6 IO_L63P_2, U9 IO_L50P_2, U13 IO_L12N_D2_MISO3_2, U14 IO_L12P_D1_MISO2_2, U15 IO_L13P_M1_2, V5 IO_L63N_2, V7 IO_L46N_2, V9 IO_L50N_2, V11 IO_L42P_2, V13 IO_L18P_2, V15 IO_L13N_D10_2, W4 IO_L62P_D5_2, W6 IO_L53P_2, W8 IO_L46P_2, W9 IO_L47P_2, W10 IO_L44P_2, W11 IO_L42N_2, W12 IO_L29P_GCLK3_2, W13 IO_L18N_2, W14 IO_L20P_2, W15 IO_L17N_2, W18 IO_L6P_2, Y3 IO_L58P_2, Y4 IO_L62N_D6_2, Y5 IO_L54P_2, Y6 IO_L53N_2, Y7 IO_L48P_D7_2, Y8 IO_L47N_2, Y9 IO_L43P_2, Y10 IO_L44N_2, Y11 IO_L32P_GCLK29_2, Y12 IO_L29N_GCLK2_2, Y13 IO_L30P_GCLK1_D13_2, Y14 IO_L20N_2, Y15 IO_L21P_2, Y16 IO_L17P_2, Y17 IO_L15P_2, Y18 IO_L6N_2, Y19 IO_L5P_2, Y21 IO_L1P_CCLK_2
part D pins: A2 IO_L83P_3, B1 IO_L60N_3, B2 IO_L60P_3, B3 IO_L83N_VREF_3, C1 IO_L54N_M3A11_3, C3 IO_L54P_M3RESET_3, D1 IO_L53N_M3A12_3, D2 IO_L53P_M3CKE_3, E1 IO_L52N_M3A9_3, E3 IO_L52P_M3A8_3, F1 IO_L50N_M3BA2_3, F2 IO_L50P_M3WE_3, F3 IO_L51N_M3A4_3, F5 IO_L55N_M3A14_3, G1 IO_L48N_M3BA1_3, G3 IO_L48P_M3BA0_3, G4 IO_L51P_M3A10_3, G6 IO_L55P_M3A13_3, H1 IO_L47N_M3A1_3, H2 IO_L47P_M3A0_3, H3 IO_L46N_M3CLKN_3, H4 IO_L46P_M3CLK_3, H5 IO_L49N_M3A2_3, H6 IO_L49P_M3A7_3, H8 IO_L59N_3, J1 IO_L41N_GCLK26_M3DQ5_3, J3 IO_L41P_GCLK27_M3DQ4_3, J4 IO_L44N_GCLK20_M3A6_3, J6 IO_L45N_M3ODT_3, J7 IO_L59P_3, K1 IO_L40N_M3DQ7_3, K2 IO_L40P_M3DQ6_3, K3 IO_L44P_GCLK21_M3A5_3, K4 IO_L43N_GCLK22_IRDY2_M3CASN_3, K5 IO_L43P_GCLK23_M3RASN_3, K6 IO_L45P_M3A3_3, L1 IO_L39N_M3LDQSN_3, L3 IO_L39P_M3LDQS_3, L4 IO_L42N_GCLK24_M3LDM_3, M1 IO_L38N_M3DQ3_3, M2 IO_L38P_M3DQ2_3, M3 IO_L42P_GCLK25_TRDY2_M3UDM_3, M4 IO_L31N_VREF_3, M5 IO_L31P_3, N1 IO_L37N_M3DQ1_3, N3 IO_L37P_M3DQ0_3, P1 IO_L36N_M3DQ9_3, P2 IO_L36P_M3DQ8_3, R1 IO_L35N_M3DQ11_3, R3 IO_L35P_M3DQ10_3, T1 IO_L34N_M3UDQSN_3, T2 IO_L34P_M3UDQS_3, T3 IO_L9N_3, T4 IO_L9P_3, U1 IO_L33N_M3DQ13_3, U3 IO_L33P_M3DQ12_3, U4 IO_L10P_3, V1 IO_L32N_M3DQ15_3, V2 IO_L32P_M3DQ14_3, V3 IO_L10N_3, W1 IO_L2N_3, W3 IO_L2P_3, Y1 IO_L1N_VREF_3, Y2 IO_L1P_3
part E pins: A19 TDO, AA1 PROGRAM_B_2, C18 TMS, E18 TDI, G15 TCK, N15 SUSPEND, Y20 CMPCS_B_2, Y22 DONE_2
part F pins: AA3 VCCO_2, AA7 VCCO_2, AA11 VCCO_2, AA15 VCCO_2, AA19 VCCO_2, B4 VCCO_0, B7 VCCO_0, B11 VCCO_0, B15 VCCO_0, B19 VCCO_0, C2 VCCO_3, C21 VCCO_1, D16 VCCAUX, E9 VCCO_0, E13 VCCO_0, E17 VCCO_0, E19 VCCO_1, F4 VCCO_3, F6 VCCO_3, F11 VCCAUX, G2 VCCO_3, G10 VCCO_0, G12 VCCAUX, G14 VCCO_0, G21 VCCO_1, H9 VCCAUX, H15 VCCAUX, J5 VCCO_3, J8 VCCINT, J10 VCCINT, J12 VCCINT, J14 VCCINT, J18 VCCO_1, K9 VCCINT, K11 VCCINT, K13 VCCINT, K15 VCCAUX, L2 VCCO_3, L7 VCCO_3, L8 VCCAUX, L10 VCCINT, L12 VCCINT, L14 VCCINT, L16 VCCO_1, L21 VCCO_1, M9 VCCINT, M11 VCCINT, M13 VCCINT, M15 VCCAUX, N5 VCCO_3, N8 VCCAUX, N10 VCCINT, N12 VCCINT, N14 VCCINT, N18 VCCO_1, P9 VCCINT, P11 VCCINT, P13 VCCINT, R2 VCCO_3, R6 VCCAUX, R10 VCCAUX, R12 VCCAUX, R14 VCCINT, R21 VCCO_1, T9 VCCO_2, T13 VCCO_2, U5 VCCO_3, U11 VCCAUX, U18 VCCO_1, V6 VCCAUX, V8 VCCO_2, V12 VCCO_2, V16 VCCO_2, W2 VCCO_3, W5 VCCO_2, W21 VCCO_1
part G pins: A1 GND, A22 GND, AA5 GND, AA9 GND, AA13 GND, AA17 GND, AB1 GND, AB22 GND, B5 GND, B9 GND, B13 GND, B17 GND, D4 GND, D18 GND, E2 GND, E7 GND, E11 GND, E15 GND, E21 GND, G5 GND, G18 GND, H7 GND, J2 GND, J9 GND, J11 GND, J13 GND, J15 GND, J21 GND, K10 GND, K12 GND, K14 GND, L5 GND, L9 GND, L11 GND, L13 GND, L18 GND, M10 GND, M12 GND, M14 GND, N2 GND, N9 GND, N11 GND, N13 GND, N17 GND, N21 GND, P10 GND, P12 GND, P14 GND, R5 GND, R18 GND, U2 GND, U7 GND, U21 GND, V4 GND, V10 GND, V14 GND, W7 GND, W16 GND, W19 GND
part H pins: C4 NC, D3 NC, D5 NC, E4 NC, E5 NC, E6 NC, E8 NC, E10 NC, F7 NC, F8 NC, F9 NC, F10 NC, F16 NC, F17 NC, G7 NC, G8 NC, G9 NC, G11 NC, G16 NC, G17 NC, H10 NC, H11 NC, H16 NC, H17 NC, J16 NC, K7 NC, K8 NC, K16 NC, L6 NC, L15 NC, M6 NC, M7 NC, M8 NC, M16 NC, M17 NC, M18 NC, N4 NC, N6 NC, N7 NC, N16 NC, P3 NC, P4 NC, P5 NC, P6 NC, P7 NC, P8 NC, P15 NC, P16 NC, P17 NC, P18 NC, R4 NC, R13 NC, R15 NC, R16 NC, R17 NC, R19 NC, T8 NC, T10 NC, T12 NC, T14 NC, T15 NC, T16 NC, T17 NC, T18 NC, U8 NC, U10 NC, U12 NC, U16 NC, U17 NC, U19 NC, V17 NC, V18 NC, V19 NC, V20 NC, W17 NC
part A text: PLM; BANK 0
part B text: PLM; BANK 1
part C text: PLM; BANK 2
part D text: PLM; BANK 3
part E text: PLM; BANK; PROG
part F text: PLM; BANK; POWER
part G text: PLM
part H text: PLM

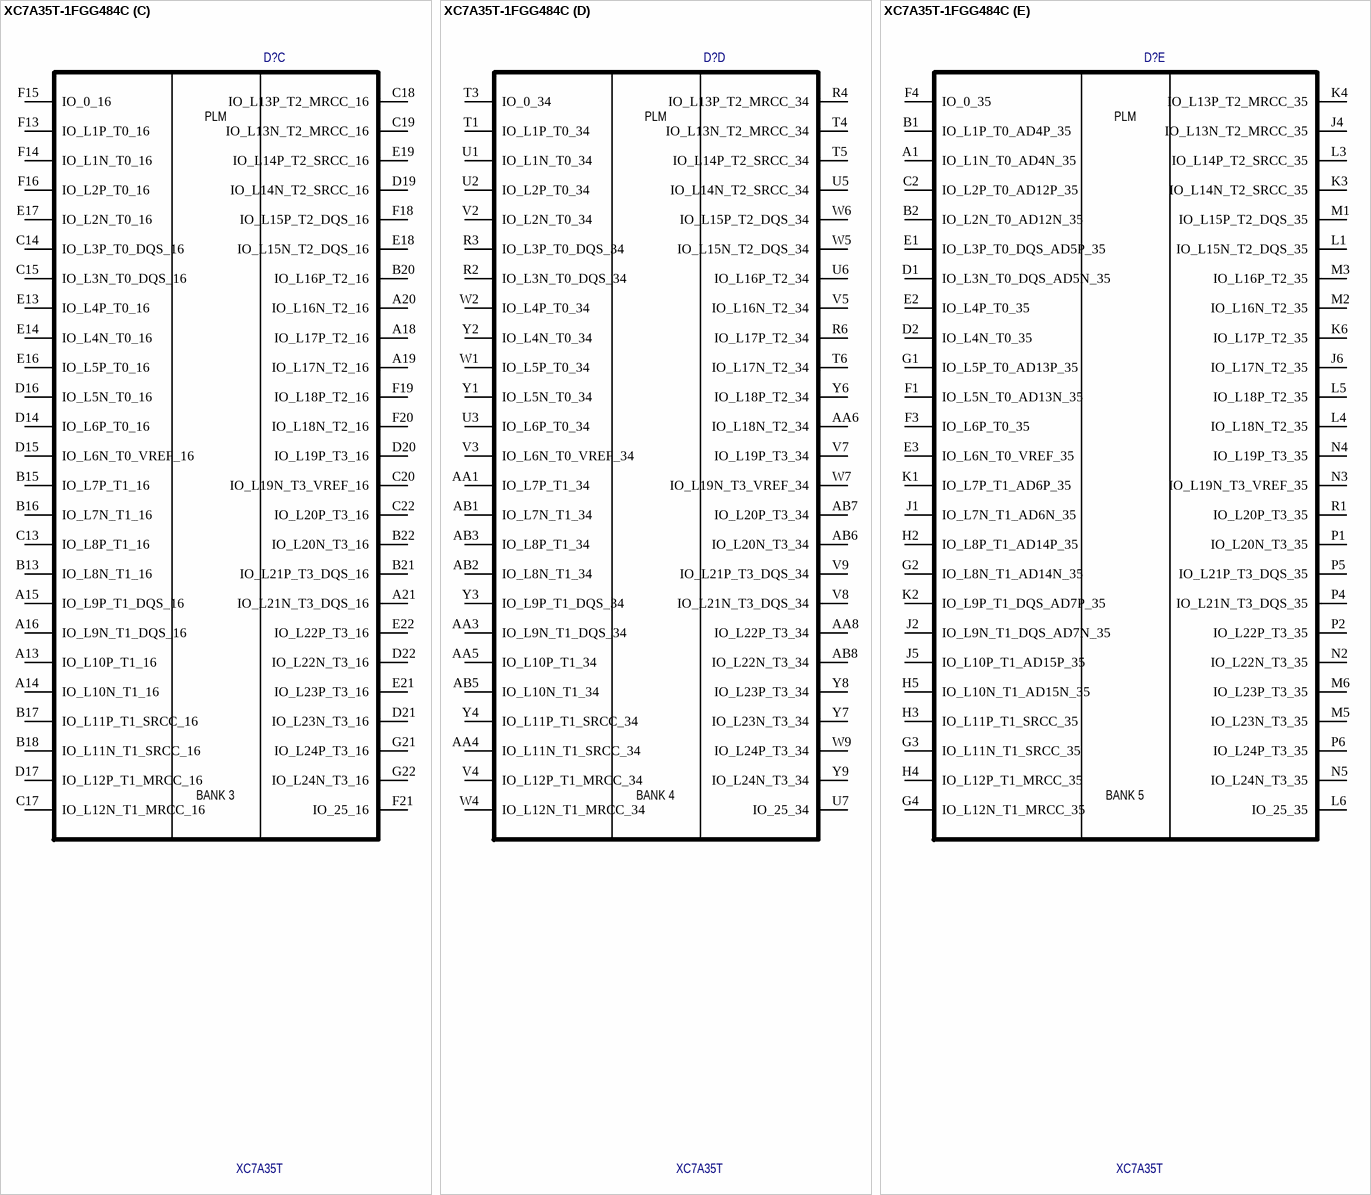
[diagram p11: symbol XC7A35T-1FGG484C]

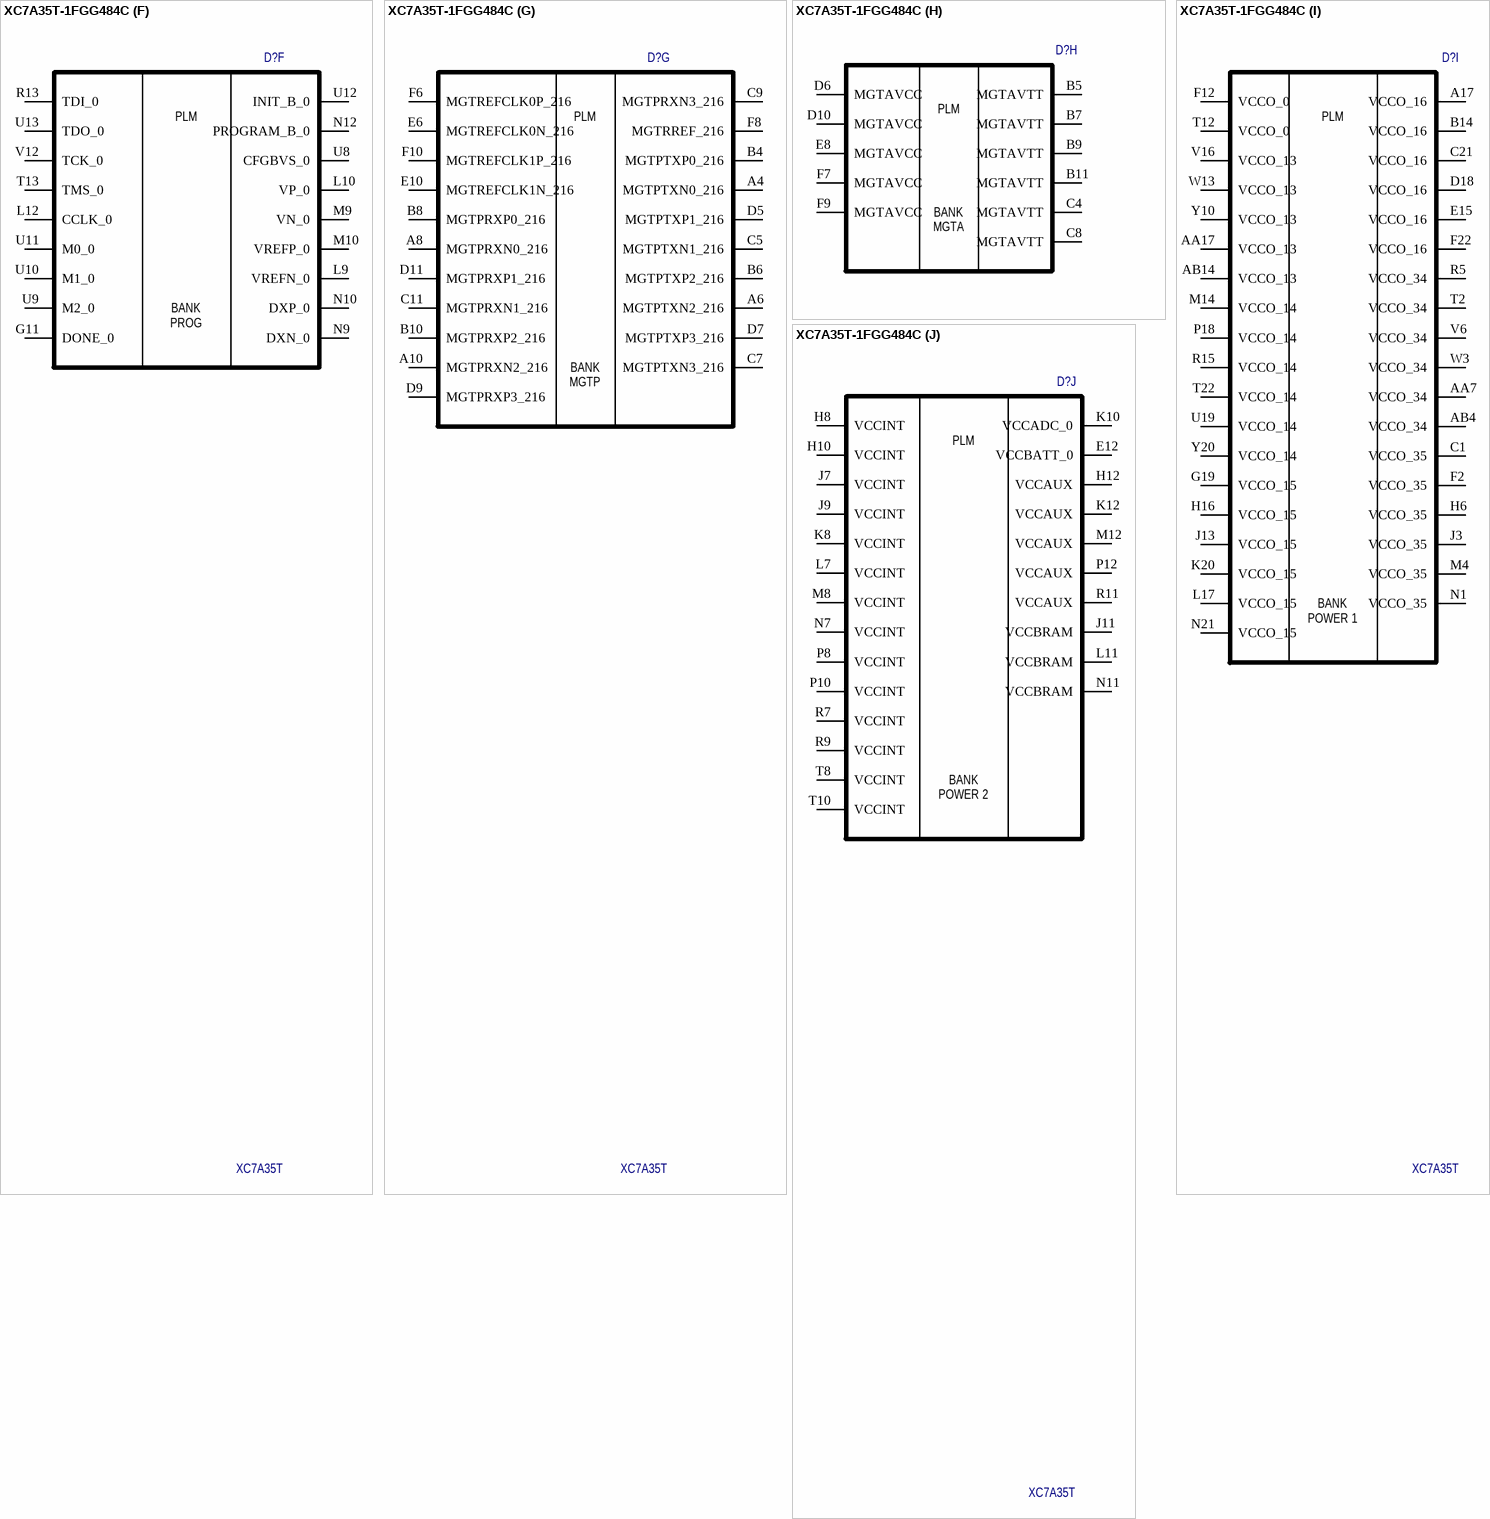
[diagram p12: symbol XC7A35T-1FGG484C]

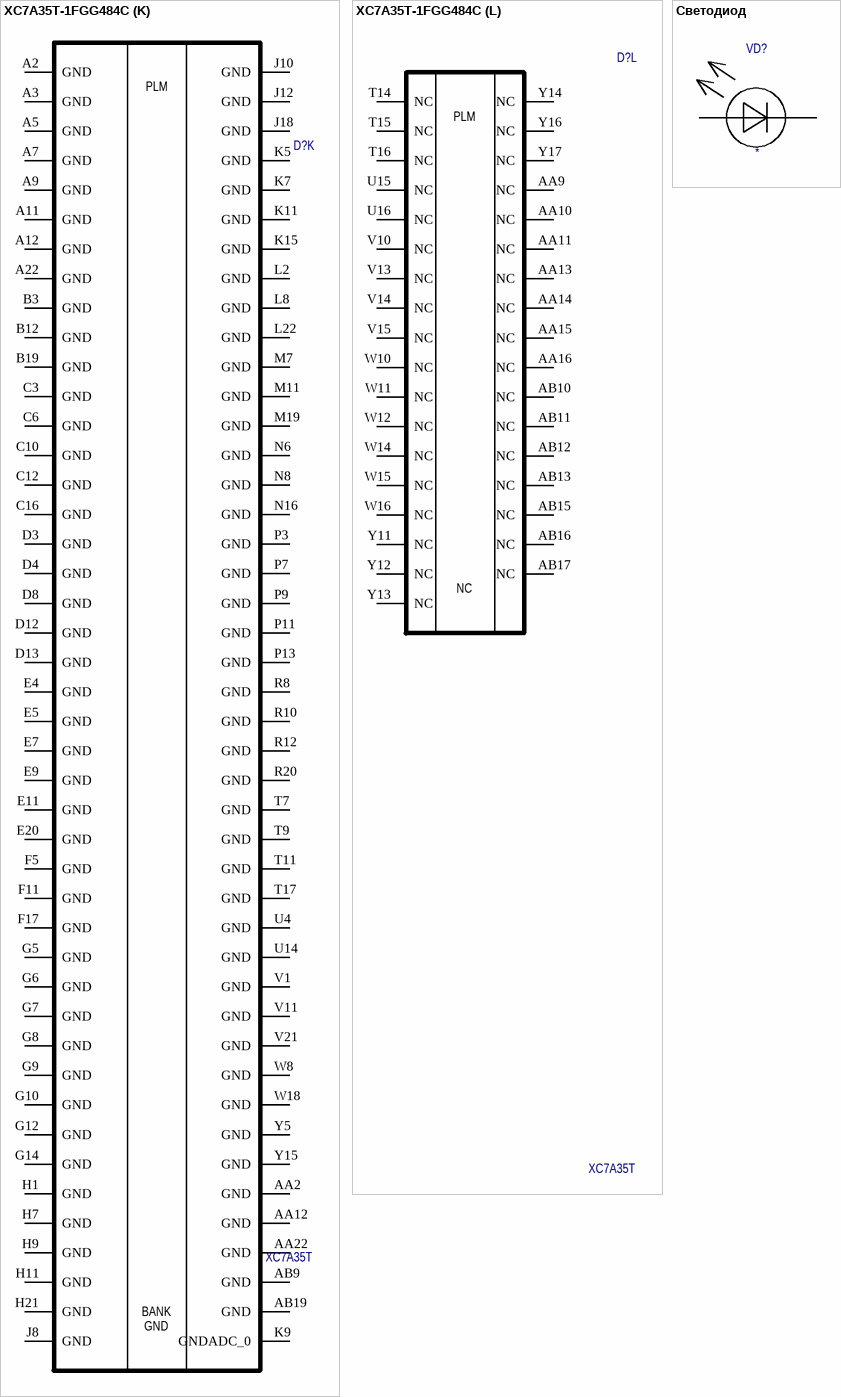
[diagram p13: symbols XC7A35T-1FGG484C to Светодиод]

## XC7A35T-1FGG484C
designator D?  value XC7A35T
Artix-7 FPGA, 250 User I/Os, 4 GTP, 484-Ball BGA, Speed Grade 1, Commercial Grade, Pb-Free; Manufacturer: Xilinx; PartNumber: XC7A35T-1FGG484C; Package: FGG484
footprint FGG484 (BGA, 484-Balls, Body 23x23mm, Pitch 1mm)
part A pins: AA18 IO_L17P_T2_A14_D30_14, AA19 IO_L15P_T2_DQS_RDWR_B_14, AA20 IO_L8P_T1_D11_14, AA21 IO_L8N_T1_D12_14, AB18 IO_L17N_T2_A13_D29_14, AB20 IO_L15N_T2_DQS_DOUT_CSO_B_14, AB21 IO_L10P_T1_D14_14, AB22 IO_L10N_T1_D15_14, N13 IO_L23P_T3_A03_D19_14, N14 IO_L23N_T3_A02_D18_14, N15 IO_25_14, N17 IO_L21P_T3_DQS_14, P14 IO_L19P_T3_A10_D26_14, P15 IO_L22P_T3_A05_D21_14, P16 IO_L24P_T3_A01_D17_14, P17 IO_L21N_T3_DQS_A06_D22_14, P19 IO_L5P_T0_D06_14, P20 IO_0_14, P21 IO_L2P_T0_D02_14, P22 IO_L1P_T0_D00_MOSI_14, R14 IO_L19N_T3_A09_D25_VREF_14, R16 IO_L22N_T3_A04_D20_14, R17 IO_L24N_T3_A00_D16_14, R18 IO_L20P_T3_A08_D24_14, R19 IO_L5N_T0_D07_14, R21 IO_L2N_T0_D03_14, R22 IO_L1N_T0_D01_DIN_14, T18 IO_L20N_T3_A07_D23_14, T19 IO_L6P_T0_FCS_B_14, T20 IO_L6N_T0_D08_VREF_14, T21 IO_L4P_T0_D04_14, U17 IO_L18P_T2_A12_D28_14, U18 IO_L18N_T2_A11_D27_14, U20 IO_L11P_T1_SRCC_14, U21 IO_L4N_T0_D05_14, U22 IO_L3P_T0_DQS_PUDC_B_14, V17 IO_L16P_T2_CSI_B_14, V18 IO_L14P_T2_SRCC_14, V19 IO_L14N_T2_SRCC_14, V20 IO_L11N_T1_SRCC_14, V22 IO_L3N_T0_DQS_EMCCLK_14, W17 IO_L16N_T2_A15_D31_14, W19 IO_L12P_T1_MRCC_14, W20 IO_L12N_T1_MRCC_14, W21 IO_L7P_T1_D09_14, W22 IO_L7N_T1_D10_14, Y18 IO_L13P_T2_MRCC_14, Y19 IO_L13N_T2_MRCC_14, Y21 IO_L9P_T1_DQS_14, Y22 IO_L9N_T1_DQS_D13_14
part B pins: G13 IO_L1N_T0_AD0N_15, G15 IO_L2P_T0_AD8P_15, G16 IO_L2N_T0_AD8N_15, G17 IO_L4P_T0_15, G18 IO_L4N_T0_15, G20 IO_L8N_T1_AD10N_15, H13 IO_L1P_T0_AD0P_15, H14 IO_L3N_T0_DQS_AD1N_15, H15 IO_L5N_T0_AD9N_15, H17 IO_L6P_T0_15, H18 IO_L6N_T0_VREF_15, H19 IO_L12N_T1_MRCC_15, H20 IO_L8P_T1_AD10P_15, H22 IO_L7N_T1_AD2N_15, J14 IO_L3P_T0_DQS_AD1P_15, J15 IO_L5P_T0_AD9P_15, J16 IO_0_15, J17 IO_L21N_T3_DQS_A18_15, J19 IO_L12P_T1_MRCC_15, J20 IO_L11P_T1_SRCC_15, J21 IO_L11N_T1_SRCC_15, J22 IO_L7P_T1_AD2P_15, K13 IO_L19P_T3_A22_15, K14 IO_L19N_T3_A21_VREF_15, K16 IO_L23N_T3_FWE_B_15, K17 IO_L21P_T3_DQS_15, K18 IO_L13P_T2_MRCC_15, K19 IO_L13N_T2_MRCC_15, K21 IO_L9P_T1_DQS_AD3P_15, K22 IO_L9N_T1_DQS_AD3N_15, L13 IO_L20N_T3_A19_15, L14 IO_L22P_T3_A17_15, L15 IO_L22N_T3_A16_15, L16 IO_L23P_T3_FOE_B_15, L18 IO_L16N_T2_A27_15, L19 IO_L14P_T2_SRCC_15, L20 IO_L14N_T2_SRCC_15, L21 IO_L10N_T1_AD11N_15, M13 IO_L20P_T3_A20_15, M15 IO_L24P_T3_RS1_15, M16 IO_L24N_T3_RS0_15, M17 IO_25_15, M18 IO_L16P_T2_A28_15, M20 IO_L18N_T2_A23_15, M21 IO_L10P_T1_AD11P_15, M22 IO_L15N_T2_DQS_ADV_B_15, N18 IO_L17P_T2_A26_15, N19 IO_L17N_T2_A25_15, N20 IO_L18P_T2_A24_15, N22 IO_L15P_T2_DQS_15
part C pins: A13 IO_L10P_T1_16, A14 IO_L10N_T1_16, A15 IO_L9P_T1_DQS_16, A16 IO_L9N_T1_DQS_16, A18 IO_L17P_T2_16, A19 IO_L17N_T2_16, A20 IO_L16N_T2_16, A21 IO_L21N_T3_DQS_16, B13 IO_L8N_T1_16, B15 IO_L7P_T1_16, B16 IO_L7N_T1_16, B17 IO_L11P_T1_SRCC_16, B18 IO_L11N_T1_SRCC_16, B20 IO_L16P_T2_16, B21 IO_L21P_T3_DQS_16, B22 IO_L20N_T3_16, C13 IO_L8P_T1_16, C14 IO_L3P_T0_DQS_16, C15 IO_L3N_T0_DQS_16, C17 IO_L12N_T1_MRCC_16, C18 IO_L13P_T2_MRCC_16, C19 IO_L13N_T2_MRCC_16, C20 IO_L19N_T3_VREF_16, C22 IO_L20P_T3_16, D14 IO_L6P_T0_16, D15 IO_L6N_T0_VREF_16, D16 IO_L5N_T0_16, D17 IO_L12P_T1_MRCC_16, D19 IO_L14N_T2_SRCC_16, D20 IO_L19P_T3_16, D21 IO_L23N_T3_16, D22 IO_L22N_T3_16, E13 IO_L4P_T0_16, E14 IO_L4N_T0_16, E16 IO_L5P_T0_16, E17 IO_L2N_T0_16, E18 IO_L15N_T2_DQS_16, E19 IO_L14P_T2_SRCC_16, E21 IO_L23P_T3_16, E22 IO_L22P_T3_16, F13 IO_L1P_T0_16, F14 IO_L1N_T0_16, F15 IO_0_16, F16 IO_L2P_T0_16, F18 IO_L15P_T2_DQS_16, F19 IO_L18P_T2_16, F20 IO_L18N_T2_16, F21 IO_25_16, G21 IO_L24P_T3_16, G22 IO_L24N_T3_16
part D pins: AA1 IO_L7P_T1_34, AA3 IO_L9N_T1_DQS_34, AA4 IO_L11N_T1_SRCC_34, AA5 IO_L10P_T1_34, AA6 IO_L18N_T2_34, AA8 IO_L22P_T3_34, AB1 IO_L7N_T1_34, AB2 IO_L8N_T1_34, AB3 IO_L8P_T1_34, AB5 IO_L10N_T1_34, AB6 IO_L20N_T3_34, AB7 IO_L20P_T3_34, AB8 IO_L22N_T3_34, R2 IO_L3N_T0_DQS_34, R3 IO_L3P_T0_DQS_34, R4 IO_L13P_T2_MRCC_34, R6 IO_L17P_T2_34, T1 IO_L1P_T0_34, T3 IO_0_34, T4 IO_L13N_T2_MRCC_34, T5 IO_L14P_T2_SRCC_34, T6 IO_L17N_T2_34, U1 IO_L1N_T0_34, U2 IO_L2P_T0_34, U3 IO_L6P_T0_34, U5 IO_L14N_T2_SRCC_34, U6 IO_L16P_T2_34, U7 IO_25_34, V2 IO_L2N_T0_34, V3 IO_L6N_T0_VREF_34, V4 IO_L12P_T1_MRCC_34, V5 IO_L16N_T2_34, V7 IO_L19P_T3_34, V8 IO_L21N_T3_DQS_34, V9 IO_L21P_T3_DQS_34, W1 IO_L5P_T0_34, W2 IO_L4P_T0_34, W4 IO_L12N_T1_MRCC_34, W5 IO_L15N_T2_DQS_34, W6 IO_L15P_T2_DQS_34, W7 IO_L19N_T3_VREF_34, W9 IO_L24P_T3_34, Y1 IO_L5N_T0_34, Y2 IO_L4N_T0_34, Y3 IO_L9P_T1_DQS_34, Y4 IO_L11P_T1_SRCC_34, Y6 IO_L18P_T2_34, Y7 IO_L23N_T3_34, Y8 IO_L23P_T3_34, Y9 IO_L24N_T3_34
part E pins: A1 IO_L1N_T0_AD4N_35, B1 IO_L1P_T0_AD4P_35, B2 IO_L2N_T0_AD12N_35, C2 IO_L2P_T0_AD12P_35, D1 IO_L3N_T0_DQS_AD5N_35, D2 IO_L4N_T0_35, E1 IO_L3P_T0_DQS_AD5P_35, E2 IO_L4P_T0_35, E3 IO_L6N_T0_VREF_35, F1 IO_L5N_T0_AD13N_35, F3 IO_L6P_T0_35, F4 IO_0_35, G1 IO_L5P_T0_AD13P_35, G2 IO_L8N_T1_AD14N_35, G3 IO_L11N_T1_SRCC_35, G4 IO_L12N_T1_MRCC_35, H2 IO_L8P_T1_AD14P_35, H3 IO_L11P_T1_SRCC_35, H4 IO_L12P_T1_MRCC_35, H5 IO_L10N_T1_AD15N_35, J1 IO_L7N_T1_AD6N_35, J2 IO_L9N_T1_DQS_AD7N_35, J4 IO_L13N_T2_MRCC_35, J5 IO_L10P_T1_AD15P_35, J6 IO_L17N_T2_35, K1 IO_L7P_T1_AD6P_35, K2 IO_L9P_T1_DQS_AD7P_35, K3 IO_L14N_T2_SRCC_35, K4 IO_L13P_T2_MRCC_35, K6 IO_L17P_T2_35, L1 IO_L15N_T2_DQS_35, L3 IO_L14P_T2_SRCC_35, L4 IO_L18N_T2_35, L5 IO_L18P_T2_35, L6 IO_25_35, M1 IO_L15P_T2_DQS_35, M2 IO_L16N_T2_35, M3 IO_L16P_T2_35, M5 IO_L23N_T3_35, M6 IO_L23P_T3_35, N2 IO_L22N_T3_35, N3 IO_L19N_T3_VREF_35, N4 IO_L19P_T3_35, N5 IO_L24N_T3_35, P1 IO_L20N_T3_35, P2 IO_L22P_T3_35, P4 IO_L21N_T3_DQS_35, P5 IO_L21P_T3_DQS_35, P6 IO_L24P_T3_35, R1 IO_L20P_T3_35
part F pins: G11 DONE_0, L9 VREFN_0, L10 VP_0, L12 CCLK_0, M9 VN_0, M10 VREFP_0, N9 DXN_0, N10 DXP_0, N12 PROGRAM_B_0, R13 TDI_0, T13 TMS_0, U8 CFGBVS_0, U9 M2_0, U10 M1_0, U11 M0_0, U12 INIT_B_0, U13 TDO_0, V12 TCK_0
part G pins: A4 MGTPTXN0_216, A6 MGTPTXN2_216, A8 MGTPRXN0_216, A10 MGTPRXN2_216, B4 MGTPTXP0_216, B6 MGTPTXP2_216, B8 MGTPRXP0_216, B10 MGTPRXP2_216, C5 MGTPTXN1_216, C7 MGTPTXN3_216, C9 MGTPRXN3_216, C11 MGTPRXN1_216, D5 MGTPTXP1_216, D7 MGTPTXP3_216, D9 MGTPRXP3_216, D11 MGTPRXP1_216, E6 MGTREFCLK0N_216, E10 MGTREFCLK1N_216, F6 MGTREFCLK0P_216, F8 MGTRREF_216, F10 MGTREFCLK1P_216
part H pins: B5 MGTAVTT, B7 MGTAVTT, B9 MGTAVTT, B11 MGTAVTT, C4 MGTAVTT, C8 MGTAVTT, D6 MGTAVCC, D10 MGTAVCC, E8 MGTAVCC, F7 MGTAVCC, F9 MGTAVCC
part I pins: A17 VCCO_16, AA7 VCCO_34, AA17 VCCO_13, AB4 VCCO_34, AB14 VCCO_13, B14 VCCO_16, C1 VCCO_35, C21 VCCO_16, D18 VCCO_16, E15 VCCO_16, F2 VCCO_35, F12 VCCO_0, F22 VCCO_16, G19 VCCO_15, H6 VCCO_35, H16 VCCO_15, J3 VCCO_35, J13 VCCO_15, K20 VCCO_15, L17 VCCO_15, M4 VCCO_35, M14 VCCO_14, N1 VCCO_35, N21 VCCO_15, P18 VCCO_14, R5 VCCO_34, R15 VCCO_14, T2 VCCO_34, T12 VCCO_0, T22 VCCO_14, U19 VCCO_14, V6 VCCO_34, V16 VCCO_13, W3 VCCO_34, W13 VCCO_13, Y10 VCCO_13, Y20 VCCO_14
part J pins: E12 VCCBATT_0, H8 VCCINT, H10 VCCINT, H12 VCCAUX, J7 VCCINT, J9 VCCINT, J11 VCCBRAM, K8 VCCINT, K10 VCCADC_0, K12 VCCAUX, L7 VCCINT, L11 VCCBRAM, M8 VCCINT, M12 VCCAUX, N7 VCCINT, N11 VCCBRAM, P8 VCCINT, P10 VCCINT, P12 VCCAUX, R7 VCCINT, R9 VCCINT, R11 VCCAUX, T8 VCCINT, T10 VCCINT
part K pins: A2 GND, A3 GND, A5 GND, A7 GND, A9 GND, A11 GND, A12 GND, A22 GND, AA2 GND, AA12 GND, AA22 GND, AB9 GND, AB19 GND, B3 GND, B12 GND, B19 GND, C3 GND, C6 GND, C10 GND, C12 GND, C16 GND, D3 GND, D4 GND, D8 GND, D12 GND, D13 GND, E4 GND, E5 GND, E7 GND, E9 GND, E11 GND, E20 GND, F5 GND, F11 GND, F17 GND, G5 GND, G6 GND, G7 GND, G8 GND, G9 GND, G10 GND, G12 GND, G14 GND, H1 GND, H7 GND, H9 GND, H11 GND, H21 GND, J8 GND, J10 GND, J12 GND, J18 GND, K5 GND, K7 GND, K9 GNDADC_0, K11 GND, K15 GND, L2 GND, L8 GND, L22 GND, M7 GND, M11 GND, M19 GND, N6 GND, N8 GND, N16 GND, P3 GND, P7 GND, P9 GND, P11 GND, P13 GND, R8 GND, R10 GND, R12 GND, R20 GND, T7 GND, T9 GND, T11 GND, T17 GND, U4 GND, U14 GND, V1 GND, V11 GND, V21 GND, W8 GND, W18 GND, Y5 GND, Y15 GND
part L pins: AA9 NC, AA10 NC, AA11 NC, AA13 NC, AA14 NC, AA15 NC, AA16 NC, AB10 NC, AB11 NC, AB12 NC, AB13 NC, AB15 NC, AB16 NC, AB17 NC, T14 NC, T15 NC, T16 NC, U15 NC, U16 NC, V10 NC, V13 NC, V14 NC, V15 NC, W10 NC, W11 NC, W12 NC, W14 NC, W15 NC, W16 NC, Y11 NC, Y12 NC, Y13 NC, Y14 NC, Y16 NC, Y17 NC
part A text: PLM; BANK 1
part B text: PLM; BANK 2
part C text: PLM; BANK 3
part D text: PLM; BANK 4
part E text: PLM; BANK 5
part F text: PLM; BANK; PROG
part G text: PLM; BANK; MGTP
part H text: PLM; BANK; MGTA
part I text: PLM; BANK; POWER 1
part J text: PLM; BANK; POWER 2
part K text: PLM; BANK
part L text: PLM

## Светодиод
designator VD?
pins: 1 A, 2 C